# Altium schematic symbol library Embedded - Microcontrollers.SchLib: 219 symbols (part 4 of 15)
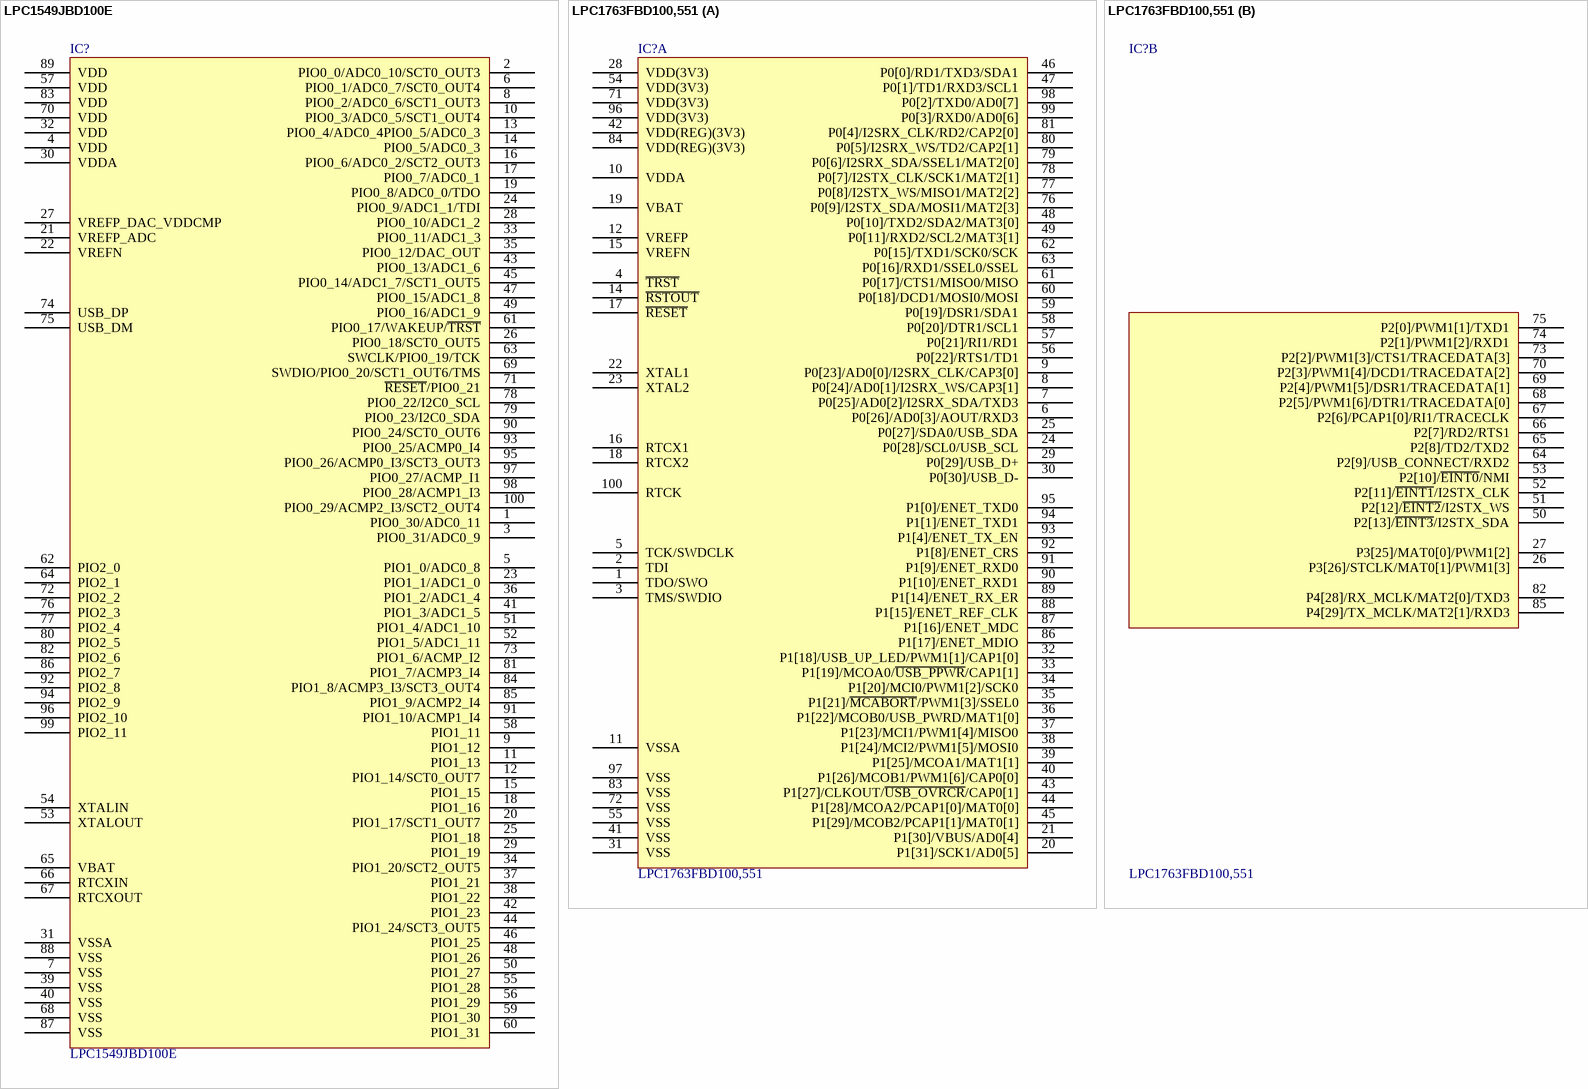
[diagram p104: symbols LPC1549JBD100E to LPC1763FBD100,551]

## LPC1549JBD100E
designator IC?
IC MCU 32BIT 256KB FLASH 100LQFP; Manufacturer: NXP USA Inc.; Connectivity: CANbus, I²C, SPI, UART/USART, USB; Core Processor: ARM® Cortex®-M3; Core Size: 32-Bit; Data Converters: A/D 24x12b; EEPROM Size: 4K x 8; Number of I/O: 76; Oscillator Type: Internal; Peripherals: Brown-out Detect/Reset, DMA, POR, PWM, WDT; Program Memory Size: 256KB (256K x 8); RAM Size: 36K x 8; Speed: 72MHz; Voltage - Supply (Vcc/Vdd): 2.4V ~ 3.6V; Part Number: LPC1549JBD100E; ComponentLink1Description: Datasheet; ComponentLink1URL: https://www.nxp.com/docs/en/data-sheet/LPC15XX.pdf; ComponentLink2Description: DigiKey Link; ComponentLink2URL: //digikey.com/product-detail/en/nxp-usa-inc/LPC1549JBD100E/568-11348-ND/4696350; Device Package: 100-LQFP; LastUpdated: 12/3/2019 10:04:50 PM; Lifecycle Status: 0; Minimum Order: 1; Mounting Type: Surface Mount; Operating Temperature: -40°C ~ 105°C (TA); Package / Case: 100-LQFP; Packaging: Tray; PartId: 49; Part Status: Active; Price: 8.12; Program Memory Type: FLASH; Series: LPC15xx; Supplier 1: DigiKey; Supplier Part Number 1: 568-11348-ND; Supplier Device Package: 100-LQFP (14x14)
footprint NXP LQFP-100 14X14MM
pins: 1 PIO0_30/ADC0_11, 2 PIO0_0/ADC0_10/SCT0_OUT3, 3 PIO0_31/ADC0_9, 4 VDD, 5 PIO1_0/ADC0_8, 6 PIO0_1/ADC0_7/SCT0_OUT4, 7 VSS, 8 PIO0_2/ADC0_6/SCT1_OUT3, 9 PIO1_12, 10 PIO0_3/ADC0_5/SCT1_OUT4, 11 PIO1_13, 12 PIO1_14/SCT0_OUT7, 13 PIO0_4/ADC0_4PIO0_5/ADC0_3, 14 PIO0_5/ADC0_3, 15 PIO1_15, 16 PIO0_6/ADC0_2/SCT2_OUT3, 17 PIO0_7/ADC0_1, 18 PIO1_16, 19 PIO0_8/ADC0_0/TDO, 20 PIO1_17/SCT1_OUT7, 21 VREFP_ADC, 22 VREFN, 23 PIO1_1/ADC1_0, 24 PIO0_9/ADC1_1/TDI, 25 PIO1_18, 26 PIO0_18/SCT0_OUT5, 27 VREFP_DAC_VDDCMP, 28 PIO0_10/ADC1_2, 29 PIO1_19, 30 VDDA, 31 VSSA, 32 VDD, 33 PIO0_11/ADC1_3, 34 PIO1_20/SCT2_OUT5, 35 PIO0_12/DAC_OUT, 36 PIO1_2/ADC1_4, 37 PIO1_21, 38 PIO1_22, 39 VSS, 40 VSS, 41 PIO1_3/ADC1_5, 42 PIO1_23, 43 PIO0_13/ADC1_6, 44 PIO1_24/SCT3_OUT5, 45 PIO0_14/ADC1_7/SCT1_OUT5, 46 PIO1_25, 47 PIO0_15/ADC1_8, 48 PIO1_26, 49 PIO0_16/ADC1_9, 50 PIO1_27, 51 PIO1_4/ADC1_10, 52 PIO1_5/ADC1_11, 53 XTALOUT, 54 XTALIN, 55 PIO1_28, 56 PIO1_29, 57 VDD, 58 PIO1_11, 59 PIO1_30, 60 PIO1_31, 61 PIO0_17/WAKEUP/~{TRST}, 62 PIO2_0, 63 SWCLK/PIO0_19/TCK, 64 PIO2_1, 65 VBAT, 66 RTCXIN, 67 RTCXOUT, 68 VSS, 69 SWDIO/PIO0_20/SCT1_OUT6/TMS, 70 VDD, 71 ~{RESET}/PIO0_21, 72 PIO2_2, 73 PIO1_6/ACMP_I2, 74 USB_DP, 75 USB_DM, 76 PIO2_3, 77 PIO2_4, 78 PIO0_22/I2C0_SCL, 79 PIO0_23/I2C0_SDA, 80 PIO2_5, 81 PIO1_7/ACMP3_I4, 82 PIO2_6, 83 VDD, 84 PIO1_8/ACMP3_I3/SCT3_OUT4, 85 PIO1_9/ACMP2_I4, 86 PIO2_7, 87 VSS, 88 VSS, 89 VDD, 90 PIO0_24/SCT0_OUT6, 91 PIO1_10/ACMP1_I4, 92 PIO2_8, 93 PIO0_25/ACMP0_I4, 94 PIO2_9, 95 PIO0_26/ACMP0_I3/SCT3_OUT3, 96 PIO2_10, 97 PIO0_27/ACMP_I1, 98 PIO0_28/ACMP1_I3, 99 PIO2_11, 100 PIO0_29/ACMP2_I3/SCT2_OUT4

## LPC1763FBD100,551
designator IC?
IC MCU 32BIT 256KB FLASH 100LQFP; Manufacturer: NXP USA Inc.; Connectivity: I²C, IrDA, Microwire, SPI, SSI, UART/USART; Core Processor: ARM® Cortex®-M3; Core Size: 32-Bit; Data Converters: A/D 8x12b; D/A 1x10b; Number of I/O: 70; Oscillator Type: Internal; Peripherals: Brown-out Detect/Reset, DMA, I²S, Motor Control PWM, POR, PWM, WDT; Program Memory Size: 256KB (256K x 8); RAM Size: 64K x 8; Speed: 100MHz; Voltage - Supply (Vcc/Vdd): 2.4V ~ 3.6V; Part Number: LPC1763FBD100,551; ComponentLink1Description: Datasheet; ComponentLink1URL: https://www.nxp.com/docs/en/data-sheet/LPC1769_68_67_66_65_64_63.pdf; ComponentLink2Description: DigiKey Link; ComponentLink2URL: //digikey.com/product-detail/en/nxp-usa-inc/LPC1763FBD100551/568-5658-ND/2406159; Device Package: 100-LQFP; LastUpdated: 12/3/2019 10:13:07 PM; Lifecycle Status: 0; Minimum Order: 1; Mounting Type: Surface Mount; Operating Temperature: -40°C ~ 85°C (TA); Package / Case: 100-LQFP; Packaging: Tray; PartId: 58; Part Status: Active; Price: 7.37; Program Memory Type: FLASH; Series: LPC17xx; Supplier 1: DigiKey; Supplier Part Number 1: 568-5658-ND; Supplier Device Package: 100-LQFP (14x14)
footprint NXP LQFP-100 14X14MM
part A pins: 1 TDO/SWO, 2 TDI, 3 TMS/SWDIO, 4 ~{TRST}, 5 TCK/SWDCLK, 6 P0[26]/AD0[3]/AOUT/RXD3, 7 P0[25]/AD0[2]/I2SRX_SDA/TXD3, 8 P0[24]/AD0[1]/I2SRX_WS/CAP3[1], 9 P0[23]/AD0[0]/I2SRX_CLK/CAP3[0], 10 VDDA, 11 VSSA, 12 VREFP, 14 ~{RSTOUT}, 15 VREFN, 16 RTCX1, 17 ~{RESET}, 18 RTCX2, 19 VBAT, 20 P1[31]/SCK1/AD0[5], 21 P1[30]/VBUS/AD0[4], 22 XTAL1, 23 XTAL2, 24 P0[28]/SCL0/USB_SCL, 25 P0[27]/SDA0/USB_SDA, 28 VDD(3V3), 29 P0[29]/USB_D+, 30 P0[30]/USB_D-, 31 VSS, 32 P1[18]/USB_UP_LED/PWM1[1]/CAP1[0], 33 P1[19]/MCOA0/~{USB_PPWR}/CAP1[1], 34 P1[20]/MCI0/PWM1[2]/SCK0, 35 P1[21]/~{MCABORT}/PWM1[3]/SSEL0, 36 P1[22]/MCOB0/USB_PWRD/MAT1[0], 37 P1[23]/MCI1/PWM1[4]/MISO0, 38 P1[24]/MCI2/PWM1[5]/MOSI0, 39 P1[25]/MCOA1/MAT1[1], 40 P1[26]/MCOB1/PWM1[6]/CAP0[0], 41 VSS, 42 VDD(REG)(3V3), 43 P1[27]/CLKOUT/~{USB_OVRCR}/CAP0[1], 44 P1[28]/MCOA2/PCAP1[0]/MAT0[0], 45 P1[29]/MCOB2/PCAP1[1]/MAT0[1], 46 P0[0]/RD1/TXD3/SDA1, 47 P0[1]/TD1/RXD3/SCL1, 48 P0[10]/TXD2/SDA2/MAT3[0], 49 P0[11]/RXD2/SCL2/MAT3[1], 54 VDD(3V3), 55 VSS, 56 P0[22]/RTS1/TD1, 57 P0[21]/RI1/RD1, 58 P0[20]/DTR1/SCL1, 59 P0[19]/DSR1/SDA1, 60 P0[18]/DCD1/MOSI0/MOSI, 61 P0[17]/CTS1/MISO0/MISO, 62 P0[15]/TXD1/SCK0/SCK, 63 P0[16]/RXD1/SSEL0/SSEL, 71 VDD(3V3), 72 VSS, 76 P0[9]/I2STX_SDA/MOSI1/MAT2[3], 77 P0[8]/I2STX_WS/MISO1/MAT2[2], 78 P0[7]/I2STX_CLK/SCK1/MAT2[1], 79 P0[6]/I2SRX_SDA/SSEL1/MAT2[0], 80 P0[5]/I2SRX_WS/TD2/CAP2[1], 81 P0[4]/I2SRX_CLK/RD2/CAP2[0], 83 VSS, 84 VDD(REG)(3V3), 86 P1[17]/ENET_MDIO, 87 P1[16]/ENET_MDC, 88 P1[15]/ENET_REF_CLK, 89 P1[14]/ENET_RX_ER, 90 P1[10]/ENET_RXD1, 91 P1[9]/ENET_RXD0, 92 P1[8]/ENET_CRS, 93 P1[4]/ENET_TX_EN, 94 P1[1]/ENET_TXD1, 95 P1[0]/ENET_TXD0, 96 VDD(3V3), 97 VSS, 98 P0[2]/TXD0/AD0[7], 99 P0[3]/RXD0/AD0[6], 100 RTCK
part B pins: 26 P3[26]/STCLK/MAT0[1]/PWM1[3], 27 P3[25]/MAT0[0]/PWM1[2], 50 P2[13]/~{EINT3}/I2STX_SDA, 51 P2[12]/~{EINT2}/I2STX_WS, 52 P2[11]/~{EINT1}/I2STX_CLK, 53 P2[10]/~{EINT0}/NMI, 64 P2[9]/USB_CONNECT/RXD2, 65 P2[8]/TD2/TXD2, 66 P2[7]/RD2/RTS1, 67 P2[6]/PCAP1[0]/RI1/TRACECLK, 68 P2[5]/PWM1[6]/DTR1/TRACEDATA[0], 69 P2[4]/PWM1[5]/DSR1/TRACEDATA[1], 70 P2[3]/PWM1[4]/DCD1/TRACEDATA[2], 73 P2[2]/PWM1[3]/CTS1/TRACEDATA[3], 74 P2[1]/PWM1[2]/RXD1, 75 P2[0]/PWM1[1]/TXD1, 82 P4[28]/RX_MCLK/MAT2[0]/TXD3, 85 P4[29]/TX_MCLK/MAT2[1]/RXD3

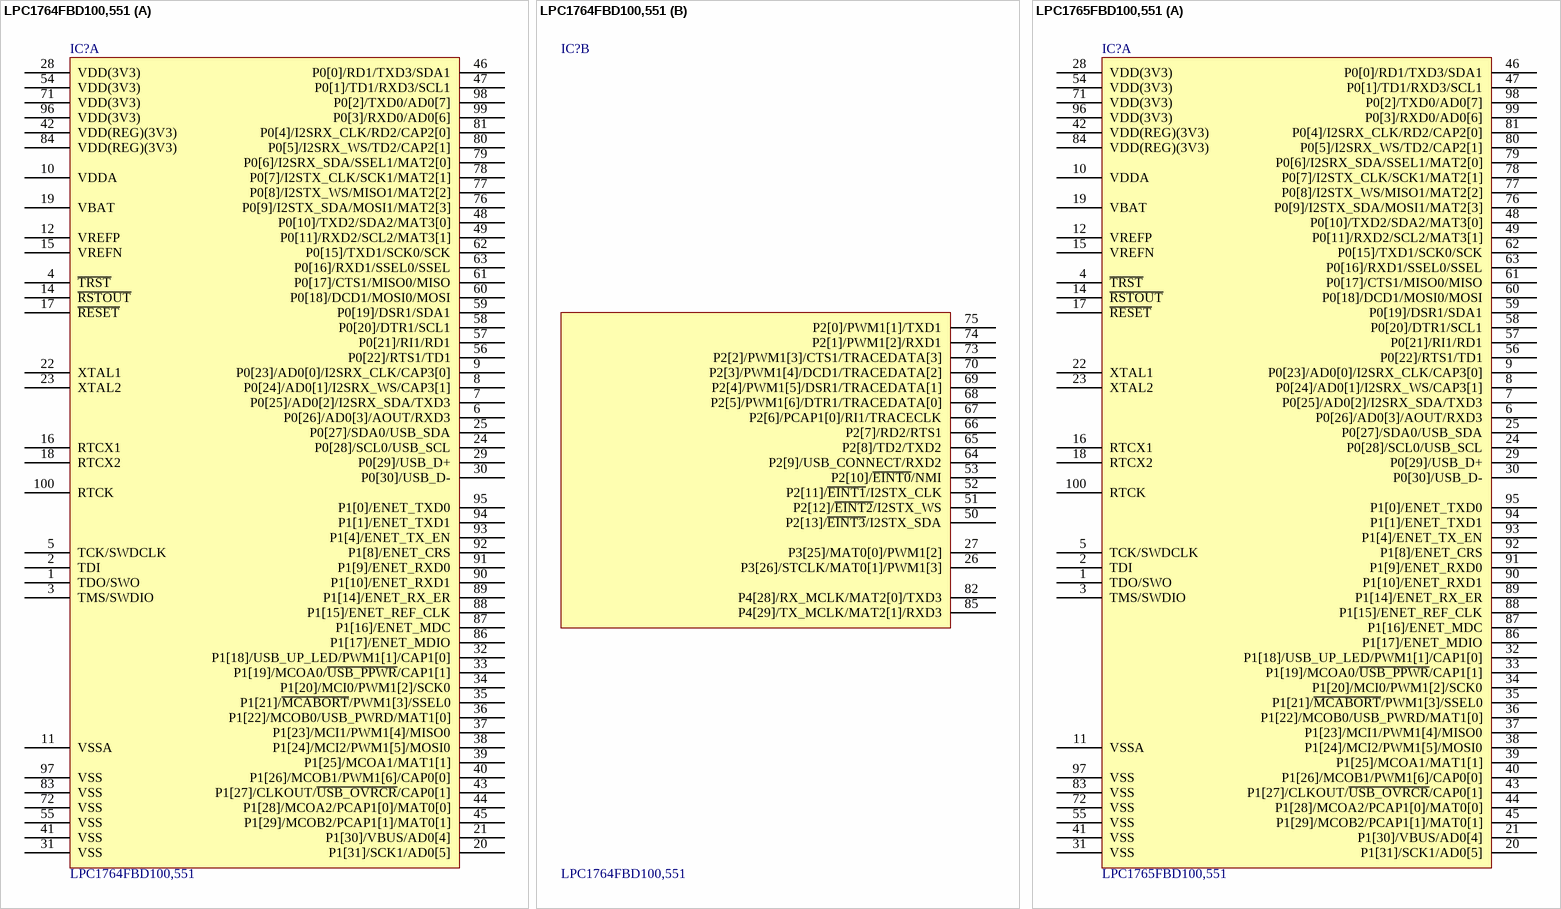
[diagram p17: symbols LPC1764FBD100,551 to LPC1765FBD100,551]

## LPC1764FBD100,551
designator IC?
IC MCU 32BIT 128KB FLASH 100LQFP; Manufacturer: NXP USA Inc.; Connectivity: CANbus, Ethernet, I²C, IrDA, Microwire, SPI, SSI, UART/USART, USB; Core Processor: ARM® Cortex®-M3; Core Size: 32-Bit; Data Converters: A/D 8x12b; Number of I/O: 70; Oscillator Type: Internal; Peripherals: Brown-out Detect/Reset, DMA, Motor Control PWM, POR, PWM, WDT; Program Memory Size: 128KB (128K x 8); RAM Size: 32K x 8; Speed: 100MHz; Voltage - Supply (Vcc/Vdd): 2.4V ~ 3.6V; Part Number: LPC1764FBD100,551; ComponentLink1Description: Datasheet; ComponentLink1URL: https://www.nxp.com/docs/en/data-sheet/LPC1769_68_67_66_65_64_63.pdf; ComponentLink2Description: DigiKey Link; ComponentLink2URL: //digikey.com/product-detail/en/nxp-usa-inc/LPC1764FBD100551/568-4793-ND/2089965; Device Package: 100-LQFP; LastUpdated: 12/3/2019 10:07:37 PM; Lifecycle Status: 0; Minimum Order: 1; Mounting Type: Surface Mount; Operating Temperature: -40°C ~ 85°C (TA); Package / Case: 100-LQFP; Packaging: Tray; PartId: 50; Part Status: Active; Price: 8.12; Program Memory Type: FLASH; Series: LPC17xx; Supplier 1: DigiKey; Supplier Part Number 1: 568-4793-ND; Supplier Device Package: 100-LQFP (14x14)
footprint NXP LQFP-100 14X14MM
part A pins: 1 TDO/SWO, 2 TDI, 3 TMS/SWDIO, 4 ~{TRST}, 5 TCK/SWDCLK, 6 P0[26]/AD0[3]/AOUT/RXD3, 7 P0[25]/AD0[2]/I2SRX_SDA/TXD3, 8 P0[24]/AD0[1]/I2SRX_WS/CAP3[1], 9 P0[23]/AD0[0]/I2SRX_CLK/CAP3[0], 10 VDDA, 11 VSSA, 12 VREFP, 14 ~{RSTOUT}, 15 VREFN, 16 RTCX1, 17 ~{RESET}, 18 RTCX2, 19 VBAT, 20 P1[31]/SCK1/AD0[5], 21 P1[30]/VBUS/AD0[4], 22 XTAL1, 23 XTAL2, 24 P0[28]/SCL0/USB_SCL, 25 P0[27]/SDA0/USB_SDA, 28 VDD(3V3), 29 P0[29]/USB_D+, 30 P0[30]/USB_D-, 31 VSS, 32 P1[18]/USB_UP_LED/PWM1[1]/CAP1[0], 33 P1[19]/MCOA0/~{USB_PPWR}/CAP1[1], 34 P1[20]/MCI0/PWM1[2]/SCK0, 35 P1[21]/~{MCABORT}/PWM1[3]/SSEL0, 36 P1[22]/MCOB0/USB_PWRD/MAT1[0], 37 P1[23]/MCI1/PWM1[4]/MISO0, 38 P1[24]/MCI2/PWM1[5]/MOSI0, 39 P1[25]/MCOA1/MAT1[1], 40 P1[26]/MCOB1/PWM1[6]/CAP0[0], 41 VSS, 42 VDD(REG)(3V3), 43 P1[27]/CLKOUT/~{USB_OVRCR}/CAP0[1], 44 P1[28]/MCOA2/PCAP1[0]/MAT0[0], 45 P1[29]/MCOB2/PCAP1[1]/MAT0[1], 46 P0[0]/RD1/TXD3/SDA1, 47 P0[1]/TD1/RXD3/SCL1, 48 P0[10]/TXD2/SDA2/MAT3[0], 49 P0[11]/RXD2/SCL2/MAT3[1], 54 VDD(3V3), 55 VSS, 56 P0[22]/RTS1/TD1, 57 P0[21]/RI1/RD1, 58 P0[20]/DTR1/SCL1, 59 P0[19]/DSR1/SDA1, 60 P0[18]/DCD1/MOSI0/MOSI, 61 P0[17]/CTS1/MISO0/MISO, 62 P0[15]/TXD1/SCK0/SCK, 63 P0[16]/RXD1/SSEL0/SSEL, 71 VDD(3V3), 72 VSS, 76 P0[9]/I2STX_SDA/MOSI1/MAT2[3], 77 P0[8]/I2STX_WS/MISO1/MAT2[2], 78 P0[7]/I2STX_CLK/SCK1/MAT2[1], 79 P0[6]/I2SRX_SDA/SSEL1/MAT2[0], 80 P0[5]/I2SRX_WS/TD2/CAP2[1], 81 P0[4]/I2SRX_CLK/RD2/CAP2[0], 83 VSS, 84 VDD(REG)(3V3), 86 P1[17]/ENET_MDIO, 87 P1[16]/ENET_MDC, 88 P1[15]/ENET_REF_CLK, 89 P1[14]/ENET_RX_ER, 90 P1[10]/ENET_RXD1, 91 P1[9]/ENET_RXD0, 92 P1[8]/ENET_CRS, 93 P1[4]/ENET_TX_EN, 94 P1[1]/ENET_TXD1, 95 P1[0]/ENET_TXD0, 96 VDD(3V3), 97 VSS, 98 P0[2]/TXD0/AD0[7], 99 P0[3]/RXD0/AD0[6], 100 RTCK
part B pins: 26 P3[26]/STCLK/MAT0[1]/PWM1[3], 27 P3[25]/MAT0[0]/PWM1[2], 50 P2[13]/~{EINT3}/I2STX_SDA, 51 P2[12]/~{EINT2}/I2STX_WS, 52 P2[11]/~{EINT1}/I2STX_CLK, 53 P2[10]/~{EINT0}/NMI, 64 P2[9]/USB_CONNECT/RXD2, 65 P2[8]/TD2/TXD2, 66 P2[7]/RD2/RTS1, 67 P2[6]/PCAP1[0]/RI1/TRACECLK, 68 P2[5]/PWM1[6]/DTR1/TRACEDATA[0], 69 P2[4]/PWM1[5]/DSR1/TRACEDATA[1], 70 P2[3]/PWM1[4]/DCD1/TRACEDATA[2], 73 P2[2]/PWM1[3]/CTS1/TRACEDATA[3], 74 P2[1]/PWM1[2]/RXD1, 75 P2[0]/PWM1[1]/TXD1, 82 P4[28]/RX_MCLK/MAT2[0]/TXD3, 85 P4[29]/TX_MCLK/MAT2[1]/RXD3

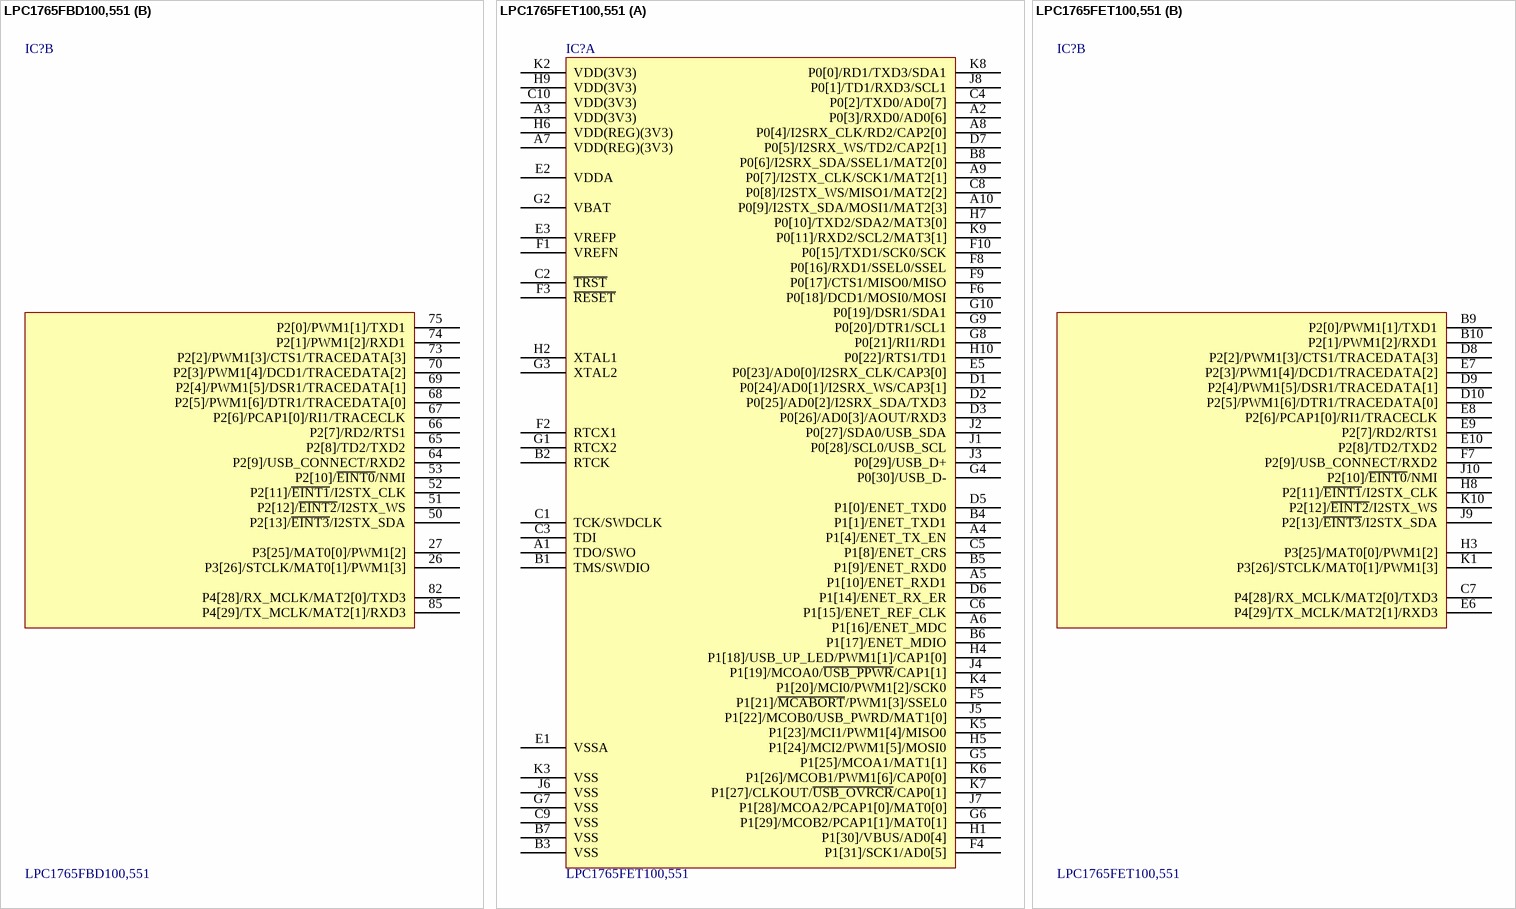
[diagram p18: symbols LPC1765FBD100,551 to LPC1765FET100,551]

## LPC1765FBD100,551
designator IC?
IC MCU 32BIT 256KB FLASH 100LQFP; Manufacturer: NXP USA Inc.; Connectivity: CANbus, I²C, IrDA, Microwire, SPI, SSI, SSP, UART/USART, USB OTG; Core Processor: ARM® Cortex®-M3; Core Size: 32-Bit; Data Converters: A/D 8x12b; D/A 1x10b; Number of I/O: 70; Oscillator Type: Internal; Peripherals: Brown-out Detect/Reset, DMA, I²S, Motor Control PWM, POR, PWM, WDT; Program Memory Size: 256KB (256K x 8); RAM Size: 64K x 8; Speed: 100MHz; Voltage - Supply (Vcc/Vdd): 2.4V ~ 3.6V; Part Number: LPC1765FBD100,551; ComponentLink1Description: Datasheet; ComponentLink1URL: https://www.nxp.com/docs/en/data-sheet/LPC1769_68_67_66_65_64_63.pdf; ComponentLink2Description: DigiKey Link; ComponentLink2URL: //digikey.com/product-detail/en/nxp-usa-inc/LPC1765FBD100551/568-4794-ND/2089966; Device Package: 100-LQFP; LastUpdated: 12/3/2019 10:09:27 PM; Lifecycle Status: 0; Minimum Order: 1; Mounting Type: Surface Mount; Operating Temperature: -40°C ~ 85°C (TA); Package / Case: 100-LQFP; Packaging: Tray; PartId: 52; Part Status: Active; Price: 9.37; Program Memory Type: FLASH; Series: LPC17xx; Supplier 1: DigiKey; Supplier Part Number 1: 568-4794-ND; Supplier Device Package: 100-LQFP (14x14)
footprint NXP LQFP-100 14X14MM
part A pins: 1 TDO/SWO, 2 TDI, 3 TMS/SWDIO, 4 ~{TRST}, 5 TCK/SWDCLK, 6 P0[26]/AD0[3]/AOUT/RXD3, 7 P0[25]/AD0[2]/I2SRX_SDA/TXD3, 8 P0[24]/AD0[1]/I2SRX_WS/CAP3[1], 9 P0[23]/AD0[0]/I2SRX_CLK/CAP3[0], 10 VDDA, 11 VSSA, 12 VREFP, 14 ~{RSTOUT}, 15 VREFN, 16 RTCX1, 17 ~{RESET}, 18 RTCX2, 19 VBAT, 20 P1[31]/SCK1/AD0[5], 21 P1[30]/VBUS/AD0[4], 22 XTAL1, 23 XTAL2, 24 P0[28]/SCL0/USB_SCL, 25 P0[27]/SDA0/USB_SDA, 28 VDD(3V3), 29 P0[29]/USB_D+, 30 P0[30]/USB_D-, 31 VSS, 32 P1[18]/USB_UP_LED/PWM1[1]/CAP1[0], 33 P1[19]/MCOA0/~{USB_PPWR}/CAP1[1], 34 P1[20]/MCI0/PWM1[2]/SCK0, 35 P1[21]/~{MCABORT}/PWM1[3]/SSEL0, 36 P1[22]/MCOB0/USB_PWRD/MAT1[0], 37 P1[23]/MCI1/PWM1[4]/MISO0, 38 P1[24]/MCI2/PWM1[5]/MOSI0, 39 P1[25]/MCOA1/MAT1[1], 40 P1[26]/MCOB1/PWM1[6]/CAP0[0], 41 VSS, 42 VDD(REG)(3V3), 43 P1[27]/CLKOUT/~{USB_OVRCR}/CAP0[1], 44 P1[28]/MCOA2/PCAP1[0]/MAT0[0], 45 P1[29]/MCOB2/PCAP1[1]/MAT0[1], 46 P0[0]/RD1/TXD3/SDA1, 47 P0[1]/TD1/RXD3/SCL1, 48 P0[10]/TXD2/SDA2/MAT3[0], 49 P0[11]/RXD2/SCL2/MAT3[1], 54 VDD(3V3), 55 VSS, 56 P0[22]/RTS1/TD1, 57 P0[21]/RI1/RD1, 58 P0[20]/DTR1/SCL1, 59 P0[19]/DSR1/SDA1, 60 P0[18]/DCD1/MOSI0/MOSI, 61 P0[17]/CTS1/MISO0/MISO, 62 P0[15]/TXD1/SCK0/SCK, 63 P0[16]/RXD1/SSEL0/SSEL, 71 VDD(3V3), 72 VSS, 76 P0[9]/I2STX_SDA/MOSI1/MAT2[3], 77 P0[8]/I2STX_WS/MISO1/MAT2[2], 78 P0[7]/I2STX_CLK/SCK1/MAT2[1], 79 P0[6]/I2SRX_SDA/SSEL1/MAT2[0], 80 P0[5]/I2SRX_WS/TD2/CAP2[1], 81 P0[4]/I2SRX_CLK/RD2/CAP2[0], 83 VSS, 84 VDD(REG)(3V3), 86 P1[17]/ENET_MDIO, 87 P1[16]/ENET_MDC, 88 P1[15]/ENET_REF_CLK, 89 P1[14]/ENET_RX_ER, 90 P1[10]/ENET_RXD1, 91 P1[9]/ENET_RXD0, 92 P1[8]/ENET_CRS, 93 P1[4]/ENET_TX_EN, 94 P1[1]/ENET_TXD1, 95 P1[0]/ENET_TXD0, 96 VDD(3V3), 97 VSS, 98 P0[2]/TXD0/AD0[7], 99 P0[3]/RXD0/AD0[6], 100 RTCK
part B pins: 26 P3[26]/STCLK/MAT0[1]/PWM1[3], 27 P3[25]/MAT0[0]/PWM1[2], 50 P2[13]/~{EINT3}/I2STX_SDA, 51 P2[12]/~{EINT2}/I2STX_WS, 52 P2[11]/~{EINT1}/I2STX_CLK, 53 P2[10]/~{EINT0}/NMI, 64 P2[9]/USB_CONNECT/RXD2, 65 P2[8]/TD2/TXD2, 66 P2[7]/RD2/RTS1, 67 P2[6]/PCAP1[0]/RI1/TRACECLK, 68 P2[5]/PWM1[6]/DTR1/TRACEDATA[0], 69 P2[4]/PWM1[5]/DSR1/TRACEDATA[1], 70 P2[3]/PWM1[4]/DCD1/TRACEDATA[2], 73 P2[2]/PWM1[3]/CTS1/TRACEDATA[3], 74 P2[1]/PWM1[2]/RXD1, 75 P2[0]/PWM1[1]/TXD1, 82 P4[28]/RX_MCLK/MAT2[0]/TXD3, 85 P4[29]/TX_MCLK/MAT2[1]/RXD3

## LPC1765FET100,551
designator IC?
IC MCU 32BIT 256KB FLASH 100BGA; Manufacturer: NXP USA Inc.; Connectivity: CANbus, I²C, IrDA, Microwire, SPI, SSI, SSP, UART/USART, USB OTG; Core Processor: ARM® Cortex®-M3; Core Size: 32-Bit; Data Converters: A/D 8x12b; D/A 1x10b; Number of I/O: 70; Oscillator Type: Internal; Peripherals: Brown-out Detect/Reset, DMA, I²S, Motor Control PWM, POR, PWM, WDT; Program Memory Size: 256KB (256K x 8); RAM Size: 64K x 8; Speed: 100MHz; Voltage - Supply (Vcc/Vdd): 2.4V ~ 3.6V; Part Number: LPC1765FET100,551; ComponentLink1Description: Datasheet; ComponentLink1URL: https://www.nxp.com/docs/en/data-sheet/LPC1769_68_67_66_65_64_63.pdf; ComponentLink2Description: DigiKey Link; ComponentLink2URL: //digikey.com/product-detail/en/nxp-usa-inc/LPC1765FET100551/568-7565-ND/2677559; Device Package: 100-TFBGA; LastUpdated: 12/3/2019 10:10:16 PM; Lifecycle Status: 0; Minimum Order: 1; Mounting Type: Surface Mount; Operating Temperature: -40°C ~ 85°C (TA); Package / Case: 100-TFBGA; Packaging: Tray; PartId: 53; Part Status: Active; Price: 9.37; Program Memory Type: FLASH; Series: LPC17xx; Supplier 1: DigiKey; Supplier Part Number 1: 568-7565-ND; Supplier Device Package: 100-TFBGA (9x9)
footprint NXP TFBGA-100 9X9MM
part A pins: A1 TDO/SWO, A2 P0[3]/RXD0/AD0[6], A3 VDD(3V3), A4 P1[4]/ENET_TX_EN, A5 P1[10]/ENET_RXD1, A6 P1[16]/ENET_MDC, A7 VDD(REG)(3V3), A8 P0[4]/I2SRX_CLK/RD2/CAP2[0], A9 P0[7]/I2STX_CLK/SCK1/MAT2[1], A10 P0[9]/I2STX_SDA/MOSI1/MAT2[3], B1 TMS/SWDIO, B2 RTCK, B3 VSS, B4 P1[1]/ENET_TXD1, B5 P1[9]/ENET_RXD0, B6 P1[17]/ENET_MDIO, B7 VSS, B8 P0[6]/I2SRX_SDA/SSEL1/MAT2[0], C1 TCK/SWDCLK, C2 ~{TRST}, C3 TDI, C4 P0[2]/TXD0/AD0[7], C5 P1[8]/ENET_CRS, C6 P1[15]/ENET_REF_CLK, C8 P0[8]/I2STX_WS/MISO1/MAT2[2], C9 VSS, C10 VDD(3V3), D1 P0[24]/AD0[1]/I2SRX_WS/CAP3[1], D2 P0[25]/AD0[2]/I2SRX_SDA/TXD3, D3 P0[26]/AD0[3]/AOUT/RXD3, D5 P1[0]/ENET_TXD0, D6 P1[14]/ENET_RX_ER, D7 P0[5]/I2SRX_WS/TD2/CAP2[1], E1 VSSA, E2 VDDA, E3 VREFP, E5 P0[23]/AD0[0]/I2SRX_CLK/CAP3[0], F1 VREFN, F2 RTCX1, F3 ~{RESET}, F4 P1[31]/SCK1/AD0[5], F5 P1[21]/~{MCABORT}/PWM1[3]/SSEL0, F6 P0[18]/DCD1/MOSI0/MOSI, F8 P0[16]/RXD1/SSEL0/SSEL, F9 P0[17]/CTS1/MISO0/MISO, F10 P0[15]/TXD1/SCK0/SCK, G1 RTCX2, G2 VBAT, G3 XTAL2, G4 P0[30]/USB_D-, G5 P1[25]/MCOA1/MAT1[1], G6 P1[29]/MCOB2/PCAP1[1]/MAT0[1], G7 VSS, G8 P0[21]/RI1/RD1, G9 P0[20]/DTR1/SCL1, G10 P0[19]/DSR1/SDA1, H1 P1[30]/VBUS/AD0[4], H2 XTAL1, H4 P1[18]/USB_UP_LED/PWM1[1]/CAP1[0], H5 P1[24]/MCI2/PWM1[5]/MOSI0, H6 VDD(REG)(3V3), H7 P0[10]/TXD2/SDA2/MAT3[0], H9 VDD(3V3), H10 P0[22]/RTS1/TD1, J1 P0[28]/SCL0/USB_SCL, J2 P0[27]/SDA0/USB_SDA, J3 P0[29]/USB_D+, J4 P1[19]/MCOA0/~{USB_PPWR}/CAP1[1], J5 P1[22]/MCOB0/USB_PWRD/MAT1[0], J6 VSS, J7 P1[28]/MCOA2/PCAP1[0]/MAT0[0], J8 P0[1]/TD1/RXD3/SCL1, K2 VDD(3V3), K3 VSS, K4 P1[20]/MCI0/PWM1[2]/SCK0, K5 P1[23]/MCI1/PWM1[4]/MISO0, K6 P1[26]/MCOB1/PWM1[6]/CAP0[0], K7 P1[27]/CLKOUT/~{USB_OVRCR}/CAP0[1], K8 P0[0]/RD1/TXD3/SDA1, K9 P0[11]/RXD2/SCL2/MAT3[1]
part B pins: B9 P2[0]/PWM1[1]/TXD1, B10 P2[1]/PWM1[2]/RXD1, C7 P4[28]/RX_MCLK/MAT2[0]/TXD3, D8 P2[2]/PWM1[3]/CTS1/TRACEDATA[3], D9 P2[4]/PWM1[5]/DSR1/TRACEDATA[1], D10 P2[5]/PWM1[6]/DTR1/TRACEDATA[0], E6 P4[29]/TX_MCLK/MAT2[1]/RXD3, E7 P2[3]/PWM1[4]/DCD1/TRACEDATA[2], E8 P2[6]/PCAP1[0]/RI1/TRACECLK, E9 P2[7]/RD2/RTS1, E10 P2[8]/TD2/TXD2, F7 P2[9]/USB_CONNECT/RXD2, H3 P3[25]/MAT0[0]/PWM1[2], H8 P2[11]/~{EINT1}/I2STX_CLK, J9 P2[13]/~{EINT3}/I2STX_SDA, J10 P2[10]/~{EINT0}/NMI, K1 P3[26]/STCLK/MAT0[1]/PWM1[3], K10 P2[12]/~{EINT2}/I2STX_WS

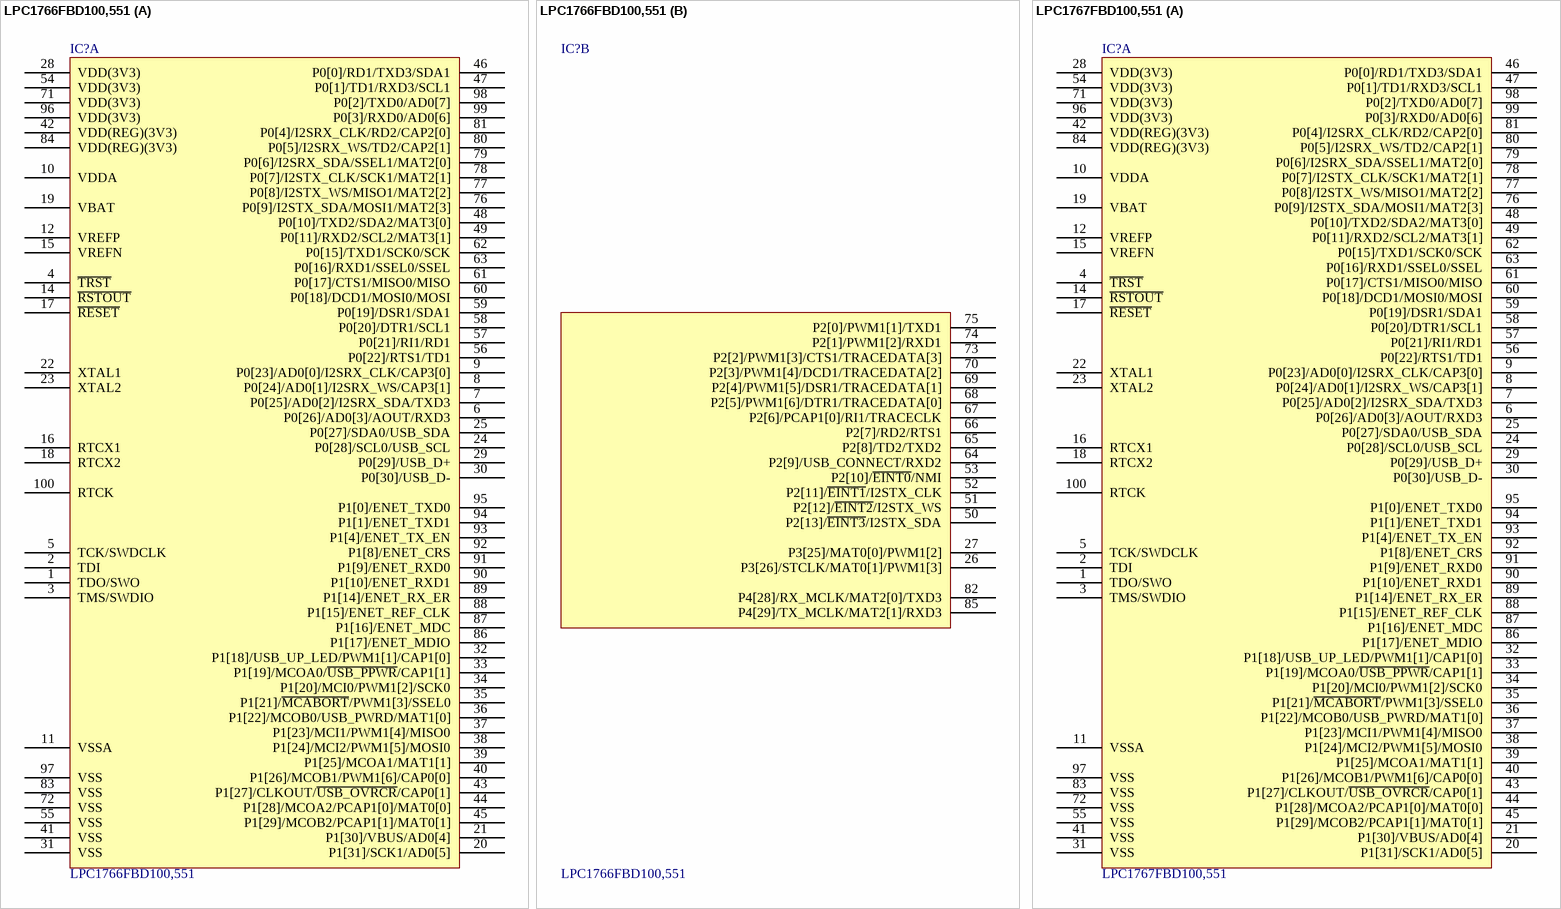
[diagram p19: symbols LPC1766FBD100,551 to LPC1767FBD100,551]

## LPC1766FBD100,551
designator IC?
IC MCU 32BIT 256KB FLASH 100LQFP; Manufacturer: NXP USA Inc.; Connectivity: CANbus, Ethernet, I²C, IrDA, Microwire, SPI, SSI, UART/USART, USB OTG; Core Processor: ARM® Cortex®-M3; Core Size: 32-Bit; Data Converters: A/D 8x12b; D/A 1x10b; Number of I/O: 70; Oscillator Type: Internal; Peripherals: Brown-out Detect/Reset, DMA, I²S, Motor Control PWM, POR, PWM, WDT; Program Memory Size: 256KB (256K x 8); RAM Size: 64K x 8; Speed: 100MHz; Voltage - Supply (Vcc/Vdd): 2.4V ~ 3.6V; Part Number: LPC1766FBD100,551; ComponentLink1Description: Datasheet; ComponentLink1URL: https://www.nxp.com/docs/en/data-sheet/LPC1769_68_67_66_65_64_63.pdf; ComponentLink2Description: DigiKey Link; ComponentLink2URL: //digikey.com/product-detail/en/nxp-usa-inc/LPC1766FBD100551/568-4795-ND/2089967; Device Package: 100-LQFP; LastUpdated: 12/3/2019 10:10:56 PM; Lifecycle Status: 0; Minimum Order: 1; Mounting Type: Surface Mount; Operating Temperature: -40°C ~ 85°C (TA); Package / Case: 100-LQFP; Packaging: Tray; PartId: 54; Part Status: Active; Price: 10.00; Program Memory Type: FLASH; Series: LPC17xx; Supplier 1: DigiKey; Supplier Part Number 1: 568-4795-ND; Supplier Device Package: 100-LQFP (14x14)
footprint NXP LQFP-100 14X14MM
part A pins: 1 TDO/SWO, 2 TDI, 3 TMS/SWDIO, 4 ~{TRST}, 5 TCK/SWDCLK, 6 P0[26]/AD0[3]/AOUT/RXD3, 7 P0[25]/AD0[2]/I2SRX_SDA/TXD3, 8 P0[24]/AD0[1]/I2SRX_WS/CAP3[1], 9 P0[23]/AD0[0]/I2SRX_CLK/CAP3[0], 10 VDDA, 11 VSSA, 12 VREFP, 14 ~{RSTOUT}, 15 VREFN, 16 RTCX1, 17 ~{RESET}, 18 RTCX2, 19 VBAT, 20 P1[31]/SCK1/AD0[5], 21 P1[30]/VBUS/AD0[4], 22 XTAL1, 23 XTAL2, 24 P0[28]/SCL0/USB_SCL, 25 P0[27]/SDA0/USB_SDA, 28 VDD(3V3), 29 P0[29]/USB_D+, 30 P0[30]/USB_D-, 31 VSS, 32 P1[18]/USB_UP_LED/PWM1[1]/CAP1[0], 33 P1[19]/MCOA0/~{USB_PPWR}/CAP1[1], 34 P1[20]/MCI0/PWM1[2]/SCK0, 35 P1[21]/~{MCABORT}/PWM1[3]/SSEL0, 36 P1[22]/MCOB0/USB_PWRD/MAT1[0], 37 P1[23]/MCI1/PWM1[4]/MISO0, 38 P1[24]/MCI2/PWM1[5]/MOSI0, 39 P1[25]/MCOA1/MAT1[1], 40 P1[26]/MCOB1/PWM1[6]/CAP0[0], 41 VSS, 42 VDD(REG)(3V3), 43 P1[27]/CLKOUT/~{USB_OVRCR}/CAP0[1], 44 P1[28]/MCOA2/PCAP1[0]/MAT0[0], 45 P1[29]/MCOB2/PCAP1[1]/MAT0[1], 46 P0[0]/RD1/TXD3/SDA1, 47 P0[1]/TD1/RXD3/SCL1, 48 P0[10]/TXD2/SDA2/MAT3[0], 49 P0[11]/RXD2/SCL2/MAT3[1], 54 VDD(3V3), 55 VSS, 56 P0[22]/RTS1/TD1, 57 P0[21]/RI1/RD1, 58 P0[20]/DTR1/SCL1, 59 P0[19]/DSR1/SDA1, 60 P0[18]/DCD1/MOSI0/MOSI, 61 P0[17]/CTS1/MISO0/MISO, 62 P0[15]/TXD1/SCK0/SCK, 63 P0[16]/RXD1/SSEL0/SSEL, 71 VDD(3V3), 72 VSS, 76 P0[9]/I2STX_SDA/MOSI1/MAT2[3], 77 P0[8]/I2STX_WS/MISO1/MAT2[2], 78 P0[7]/I2STX_CLK/SCK1/MAT2[1], 79 P0[6]/I2SRX_SDA/SSEL1/MAT2[0], 80 P0[5]/I2SRX_WS/TD2/CAP2[1], 81 P0[4]/I2SRX_CLK/RD2/CAP2[0], 83 VSS, 84 VDD(REG)(3V3), 86 P1[17]/ENET_MDIO, 87 P1[16]/ENET_MDC, 88 P1[15]/ENET_REF_CLK, 89 P1[14]/ENET_RX_ER, 90 P1[10]/ENET_RXD1, 91 P1[9]/ENET_RXD0, 92 P1[8]/ENET_CRS, 93 P1[4]/ENET_TX_EN, 94 P1[1]/ENET_TXD1, 95 P1[0]/ENET_TXD0, 96 VDD(3V3), 97 VSS, 98 P0[2]/TXD0/AD0[7], 99 P0[3]/RXD0/AD0[6], 100 RTCK
part B pins: 26 P3[26]/STCLK/MAT0[1]/PWM1[3], 27 P3[25]/MAT0[0]/PWM1[2], 50 P2[13]/~{EINT3}/I2STX_SDA, 51 P2[12]/~{EINT2}/I2STX_WS, 52 P2[11]/~{EINT1}/I2STX_CLK, 53 P2[10]/~{EINT0}/NMI, 64 P2[9]/USB_CONNECT/RXD2, 65 P2[8]/TD2/TXD2, 66 P2[7]/RD2/RTS1, 67 P2[6]/PCAP1[0]/RI1/TRACECLK, 68 P2[5]/PWM1[6]/DTR1/TRACEDATA[0], 69 P2[4]/PWM1[5]/DSR1/TRACEDATA[1], 70 P2[3]/PWM1[4]/DCD1/TRACEDATA[2], 73 P2[2]/PWM1[3]/CTS1/TRACEDATA[3], 74 P2[1]/PWM1[2]/RXD1, 75 P2[0]/PWM1[1]/TXD1, 82 P4[28]/RX_MCLK/MAT2[0]/TXD3, 85 P4[29]/TX_MCLK/MAT2[1]/RXD3

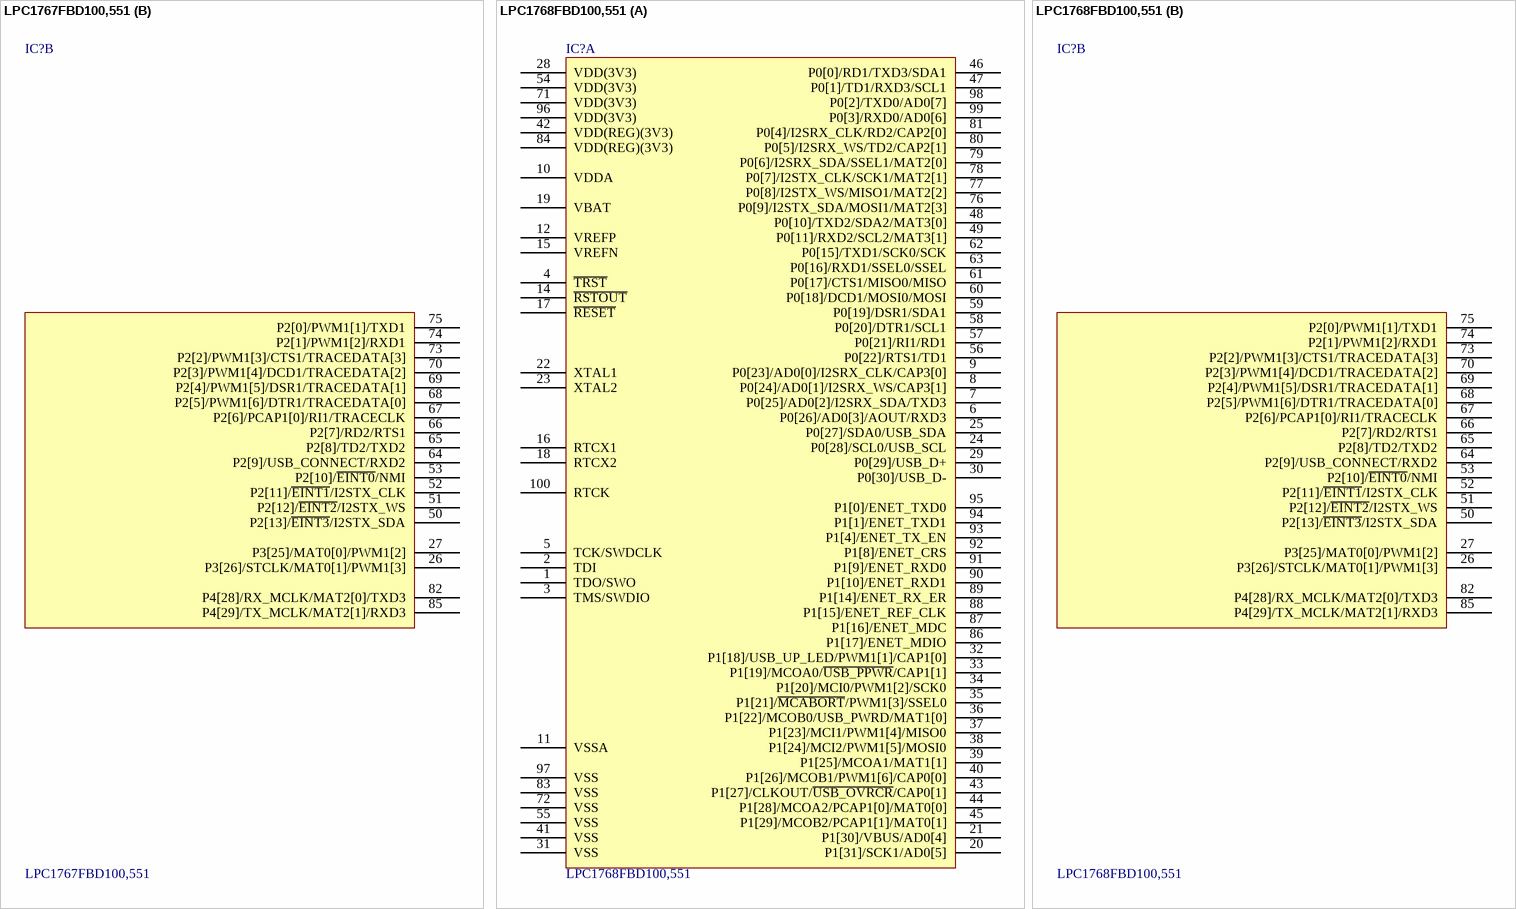
[diagram p20: symbols LPC1767FBD100,551 to LPC1768FBD100,551]

## LPC1767FBD100,551
designator IC?
IC MCU 32BIT 512KB FLASH 100LQFP; Manufacturer: NXP USA Inc.; Connectivity: Ethernet, I²C, IrDA, Microwire, SPI, SSI, UART/USART; Core Processor: ARM® Cortex®-M3; Core Size: 32-Bit; Data Converters: A/D 8x12b; D/A 1x10b; Number of I/O: 70; Oscillator Type: Internal; Peripherals: Brown-out Detect/Reset, DMA, I²S, Motor Control PWM, POR, PWM, WDT; Program Memory Size: 512KB (512K x 8); RAM Size: 64K x 8; Speed: 100MHz; Voltage - Supply (Vcc/Vdd): 2.4V ~ 3.6V; Part Number: LPC1767FBD100,551; ComponentLink1Description: Datasheet; ComponentLink1URL: https://www.nxp.com/docs/en/data-sheet/LPC1769_68_67_66_65_64_63.pdf; ComponentLink2Description: DigiKey Link; ComponentLink2URL: //digikey.com/product-detail/en/nxp-usa-inc/LPC1767FBD100551/568-4967-ND/2206363; Device Package: 100-LQFP; LastUpdated: 12/3/2019 10:08:48 PM; Lifecycle Status: 0; Minimum Order: 1; Mounting Type: Surface Mount; Operating Temperature: -40°C ~ 85°C (TA); Package / Case: 100-LQFP; Packaging: Tray; PartId: 51; Part Status: Active; Price: 10.62; Program Memory Type: FLASH; Series: LPC17xx; Supplier 1: DigiKey; Supplier Part Number 1: 568-4967-ND; Supplier Device Package: 100-LQFP (14x14)
footprint NXP LQFP-100 14X14MM
part A pins: 1 TDO/SWO, 2 TDI, 3 TMS/SWDIO, 4 ~{TRST}, 5 TCK/SWDCLK, 6 P0[26]/AD0[3]/AOUT/RXD3, 7 P0[25]/AD0[2]/I2SRX_SDA/TXD3, 8 P0[24]/AD0[1]/I2SRX_WS/CAP3[1], 9 P0[23]/AD0[0]/I2SRX_CLK/CAP3[0], 10 VDDA, 11 VSSA, 12 VREFP, 14 ~{RSTOUT}, 15 VREFN, 16 RTCX1, 17 ~{RESET}, 18 RTCX2, 19 VBAT, 20 P1[31]/SCK1/AD0[5], 21 P1[30]/VBUS/AD0[4], 22 XTAL1, 23 XTAL2, 24 P0[28]/SCL0/USB_SCL, 25 P0[27]/SDA0/USB_SDA, 28 VDD(3V3), 29 P0[29]/USB_D+, 30 P0[30]/USB_D-, 31 VSS, 32 P1[18]/USB_UP_LED/PWM1[1]/CAP1[0], 33 P1[19]/MCOA0/~{USB_PPWR}/CAP1[1], 34 P1[20]/MCI0/PWM1[2]/SCK0, 35 P1[21]/~{MCABORT}/PWM1[3]/SSEL0, 36 P1[22]/MCOB0/USB_PWRD/MAT1[0], 37 P1[23]/MCI1/PWM1[4]/MISO0, 38 P1[24]/MCI2/PWM1[5]/MOSI0, 39 P1[25]/MCOA1/MAT1[1], 40 P1[26]/MCOB1/PWM1[6]/CAP0[0], 41 VSS, 42 VDD(REG)(3V3), 43 P1[27]/CLKOUT/~{USB_OVRCR}/CAP0[1], 44 P1[28]/MCOA2/PCAP1[0]/MAT0[0], 45 P1[29]/MCOB2/PCAP1[1]/MAT0[1], 46 P0[0]/RD1/TXD3/SDA1, 47 P0[1]/TD1/RXD3/SCL1, 48 P0[10]/TXD2/SDA2/MAT3[0], 49 P0[11]/RXD2/SCL2/MAT3[1], 54 VDD(3V3), 55 VSS, 56 P0[22]/RTS1/TD1, 57 P0[21]/RI1/RD1, 58 P0[20]/DTR1/SCL1, 59 P0[19]/DSR1/SDA1, 60 P0[18]/DCD1/MOSI0/MOSI, 61 P0[17]/CTS1/MISO0/MISO, 62 P0[15]/TXD1/SCK0/SCK, 63 P0[16]/RXD1/SSEL0/SSEL, 71 VDD(3V3), 72 VSS, 76 P0[9]/I2STX_SDA/MOSI1/MAT2[3], 77 P0[8]/I2STX_WS/MISO1/MAT2[2], 78 P0[7]/I2STX_CLK/SCK1/MAT2[1], 79 P0[6]/I2SRX_SDA/SSEL1/MAT2[0], 80 P0[5]/I2SRX_WS/TD2/CAP2[1], 81 P0[4]/I2SRX_CLK/RD2/CAP2[0], 83 VSS, 84 VDD(REG)(3V3), 86 P1[17]/ENET_MDIO, 87 P1[16]/ENET_MDC, 88 P1[15]/ENET_REF_CLK, 89 P1[14]/ENET_RX_ER, 90 P1[10]/ENET_RXD1, 91 P1[9]/ENET_RXD0, 92 P1[8]/ENET_CRS, 93 P1[4]/ENET_TX_EN, 94 P1[1]/ENET_TXD1, 95 P1[0]/ENET_TXD0, 96 VDD(3V3), 97 VSS, 98 P0[2]/TXD0/AD0[7], 99 P0[3]/RXD0/AD0[6], 100 RTCK
part B pins: 26 P3[26]/STCLK/MAT0[1]/PWM1[3], 27 P3[25]/MAT0[0]/PWM1[2], 50 P2[13]/~{EINT3}/I2STX_SDA, 51 P2[12]/~{EINT2}/I2STX_WS, 52 P2[11]/~{EINT1}/I2STX_CLK, 53 P2[10]/~{EINT0}/NMI, 64 P2[9]/USB_CONNECT/RXD2, 65 P2[8]/TD2/TXD2, 66 P2[7]/RD2/RTS1, 67 P2[6]/PCAP1[0]/RI1/TRACECLK, 68 P2[5]/PWM1[6]/DTR1/TRACEDATA[0], 69 P2[4]/PWM1[5]/DSR1/TRACEDATA[1], 70 P2[3]/PWM1[4]/DCD1/TRACEDATA[2], 73 P2[2]/PWM1[3]/CTS1/TRACEDATA[3], 74 P2[1]/PWM1[2]/RXD1, 75 P2[0]/PWM1[1]/TXD1, 82 P4[28]/RX_MCLK/MAT2[0]/TXD3, 85 P4[29]/TX_MCLK/MAT2[1]/RXD3

## LPC1768FBD100,551
designator IC?
IC MCU 32BIT 512KB FLASH 100LQFP; Manufacturer: NXP USA Inc.; Connectivity: CANbus, Ethernet, I²C, IrDA, Microwire, SPI, SSI, UART/USART, USB OTG; Core Processor: ARM® Cortex®-M3; Core Size: 32-Bit; Data Converters: A/D 8x12b; D/A 1x10b; Number of I/O: 70; Oscillator Type: Internal; Peripherals: Brown-out Detect/Reset, DMA, I²S, Motor Control PWM, POR, PWM, WDT; Program Memory Size: 512KB (512K x 8); RAM Size: 64K x 8; Speed: 100MHz; Voltage - Supply (Vcc/Vdd): 2.4V ~ 3.6V; Part Number: LPC1768FBD100,551; ComponentLink1Description: Datasheet; ComponentLink1URL: https://www.nxp.com/docs/en/data-sheet/LPC1769_68_67_66_65_64_63.pdf; ComponentLink2Description: DigiKey Link; ComponentLink2URL: //digikey.com/product-detail/en/nxp-usa-inc/LPC1768FBD100551/568-4796-ND/2089968; Device Package: 100-LQFP; LastUpdated: 12/3/2019 10:11:29 PM; Lifecycle Status: 0; Minimum Order: 1; Mounting Type: Surface Mount; Operating Temperature: -40°C ~ 85°C (TA); Package / Case: 100-LQFP; Packaging: Tray; PartId: 55; Part Status: Active; Price: 11.25; Program Memory Type: FLASH; Series: LPC17xx; Supplier 1: DigiKey; Supplier Part Number 1: 568-4796-ND; Supplier Device Package: 100-LQFP (14x14)
footprint NXP LQFP-100 14X14MM
part A pins: 1 TDO/SWO, 2 TDI, 3 TMS/SWDIO, 4 ~{TRST}, 5 TCK/SWDCLK, 6 P0[26]/AD0[3]/AOUT/RXD3, 7 P0[25]/AD0[2]/I2SRX_SDA/TXD3, 8 P0[24]/AD0[1]/I2SRX_WS/CAP3[1], 9 P0[23]/AD0[0]/I2SRX_CLK/CAP3[0], 10 VDDA, 11 VSSA, 12 VREFP, 14 ~{RSTOUT}, 15 VREFN, 16 RTCX1, 17 ~{RESET}, 18 RTCX2, 19 VBAT, 20 P1[31]/SCK1/AD0[5], 21 P1[30]/VBUS/AD0[4], 22 XTAL1, 23 XTAL2, 24 P0[28]/SCL0/USB_SCL, 25 P0[27]/SDA0/USB_SDA, 28 VDD(3V3), 29 P0[29]/USB_D+, 30 P0[30]/USB_D-, 31 VSS, 32 P1[18]/USB_UP_LED/PWM1[1]/CAP1[0], 33 P1[19]/MCOA0/~{USB_PPWR}/CAP1[1], 34 P1[20]/MCI0/PWM1[2]/SCK0, 35 P1[21]/~{MCABORT}/PWM1[3]/SSEL0, 36 P1[22]/MCOB0/USB_PWRD/MAT1[0], 37 P1[23]/MCI1/PWM1[4]/MISO0, 38 P1[24]/MCI2/PWM1[5]/MOSI0, 39 P1[25]/MCOA1/MAT1[1], 40 P1[26]/MCOB1/PWM1[6]/CAP0[0], 41 VSS, 42 VDD(REG)(3V3), 43 P1[27]/CLKOUT/~{USB_OVRCR}/CAP0[1], 44 P1[28]/MCOA2/PCAP1[0]/MAT0[0], 45 P1[29]/MCOB2/PCAP1[1]/MAT0[1], 46 P0[0]/RD1/TXD3/SDA1, 47 P0[1]/TD1/RXD3/SCL1, 48 P0[10]/TXD2/SDA2/MAT3[0], 49 P0[11]/RXD2/SCL2/MAT3[1], 54 VDD(3V3), 55 VSS, 56 P0[22]/RTS1/TD1, 57 P0[21]/RI1/RD1, 58 P0[20]/DTR1/SCL1, 59 P0[19]/DSR1/SDA1, 60 P0[18]/DCD1/MOSI0/MOSI, 61 P0[17]/CTS1/MISO0/MISO, 62 P0[15]/TXD1/SCK0/SCK, 63 P0[16]/RXD1/SSEL0/SSEL, 71 VDD(3V3), 72 VSS, 76 P0[9]/I2STX_SDA/MOSI1/MAT2[3], 77 P0[8]/I2STX_WS/MISO1/MAT2[2], 78 P0[7]/I2STX_CLK/SCK1/MAT2[1], 79 P0[6]/I2SRX_SDA/SSEL1/MAT2[0], 80 P0[5]/I2SRX_WS/TD2/CAP2[1], 81 P0[4]/I2SRX_CLK/RD2/CAP2[0], 83 VSS, 84 VDD(REG)(3V3), 86 P1[17]/ENET_MDIO, 87 P1[16]/ENET_MDC, 88 P1[15]/ENET_REF_CLK, 89 P1[14]/ENET_RX_ER, 90 P1[10]/ENET_RXD1, 91 P1[9]/ENET_RXD0, 92 P1[8]/ENET_CRS, 93 P1[4]/ENET_TX_EN, 94 P1[1]/ENET_TXD1, 95 P1[0]/ENET_TXD0, 96 VDD(3V3), 97 VSS, 98 P0[2]/TXD0/AD0[7], 99 P0[3]/RXD0/AD0[6], 100 RTCK
part B pins: 26 P3[26]/STCLK/MAT0[1]/PWM1[3], 27 P3[25]/MAT0[0]/PWM1[2], 50 P2[13]/~{EINT3}/I2STX_SDA, 51 P2[12]/~{EINT2}/I2STX_WS, 52 P2[11]/~{EINT1}/I2STX_CLK, 53 P2[10]/~{EINT0}/NMI, 64 P2[9]/USB_CONNECT/RXD2, 65 P2[8]/TD2/TXD2, 66 P2[7]/RD2/RTS1, 67 P2[6]/PCAP1[0]/RI1/TRACECLK, 68 P2[5]/PWM1[6]/DTR1/TRACEDATA[0], 69 P2[4]/PWM1[5]/DSR1/TRACEDATA[1], 70 P2[3]/PWM1[4]/DCD1/TRACEDATA[2], 73 P2[2]/PWM1[3]/CTS1/TRACEDATA[3], 74 P2[1]/PWM1[2]/RXD1, 75 P2[0]/PWM1[1]/TXD1, 82 P4[28]/RX_MCLK/MAT2[0]/TXD3, 85 P4[29]/TX_MCLK/MAT2[1]/RXD3

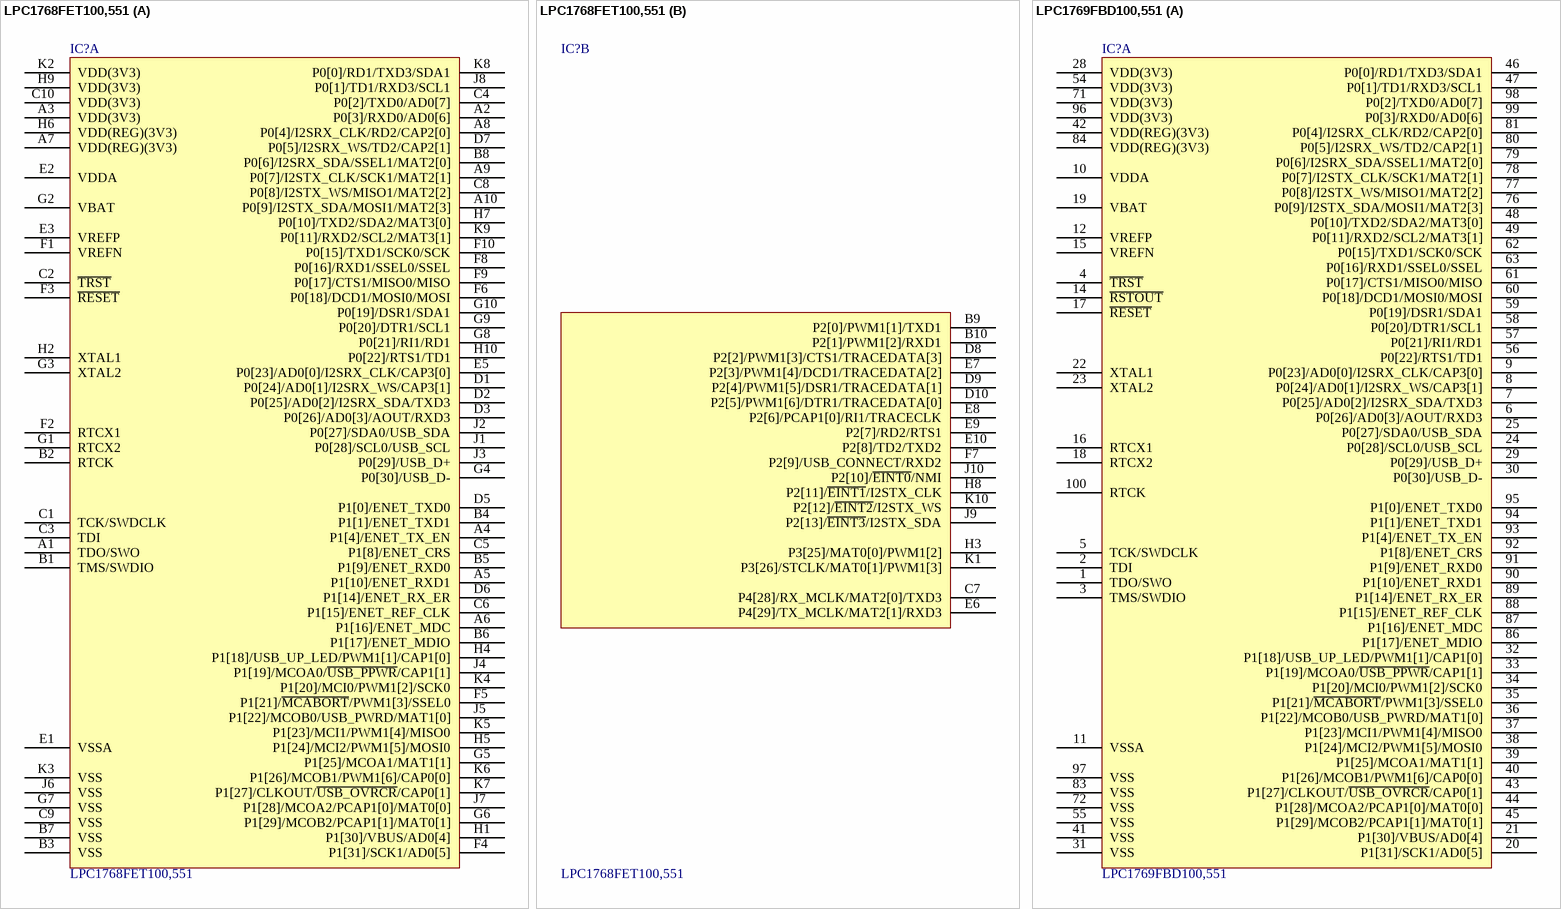
[diagram p21: symbols LPC1768FET100,551 to LPC1769FBD100,551]

## LPC1768FET100,551
designator IC?
IC MCU 32BIT 512KB FLASH 100BGA; Manufacturer: NXP USA Inc.; Connectivity: CANbus, Ethernet, I²C, IrDA, Microwire, SPI, SSI, UART/USART, USB OTG; Core Processor: ARM® Cortex®-M3; Core Size: 32-Bit; Data Converters: A/D 8x12b; D/A 1x10b; Number of I/O: 70; Oscillator Type: Internal; Peripherals: Brown-out Detect/Reset, DMA, I²S, Motor Control PWM, POR, PWM, WDT; Program Memory Size: 512KB (512K x 8); RAM Size: 64K x 8; Speed: 100MHz; Voltage - Supply (Vcc/Vdd): 2.4V ~ 3.6V; Part Number: LPC1768FET100,551; ComponentLink1Description: Datasheet; ComponentLink1URL: https://www.nxp.com/docs/en/data-sheet/LPC1769_68_67_66_65_64_63.pdf; ComponentLink2Description: DigiKey Link; ComponentLink2URL: //digikey.com/product-detail/en/nxp-usa-inc/LPC1768FET100551/568-5215-ND/2530331; Device Package: 100-TFBGA; LastUpdated: 12/3/2019 10:12:02 PM; Lifecycle Status: 0; Minimum Order: 1; Mounting Type: Surface Mount; Operating Temperature: -40°C ~ 85°C (TA); Package / Case: 100-TFBGA; Packaging: Tray; PartId: 56; Part Status: Active; Price: 11.25; Program Memory Type: FLASH; Series: LPC17xx; Supplier 1: DigiKey; Supplier Part Number 1: 568-5215-ND; Supplier Device Package: 100-TFBGA (9x9)
footprint NXP TFBGA-100 9X9MM
part A pins: A1 TDO/SWO, A2 P0[3]/RXD0/AD0[6], A3 VDD(3V3), A4 P1[4]/ENET_TX_EN, A5 P1[10]/ENET_RXD1, A6 P1[16]/ENET_MDC, A7 VDD(REG)(3V3), A8 P0[4]/I2SRX_CLK/RD2/CAP2[0], A9 P0[7]/I2STX_CLK/SCK1/MAT2[1], A10 P0[9]/I2STX_SDA/MOSI1/MAT2[3], B1 TMS/SWDIO, B2 RTCK, B3 VSS, B4 P1[1]/ENET_TXD1, B5 P1[9]/ENET_RXD0, B6 P1[17]/ENET_MDIO, B7 VSS, B8 P0[6]/I2SRX_SDA/SSEL1/MAT2[0], C1 TCK/SWDCLK, C2 ~{TRST}, C3 TDI, C4 P0[2]/TXD0/AD0[7], C5 P1[8]/ENET_CRS, C6 P1[15]/ENET_REF_CLK, C8 P0[8]/I2STX_WS/MISO1/MAT2[2], C9 VSS, C10 VDD(3V3), D1 P0[24]/AD0[1]/I2SRX_WS/CAP3[1], D2 P0[25]/AD0[2]/I2SRX_SDA/TXD3, D3 P0[26]/AD0[3]/AOUT/RXD3, D5 P1[0]/ENET_TXD0, D6 P1[14]/ENET_RX_ER, D7 P0[5]/I2SRX_WS/TD2/CAP2[1], E1 VSSA, E2 VDDA, E3 VREFP, E5 P0[23]/AD0[0]/I2SRX_CLK/CAP3[0], F1 VREFN, F2 RTCX1, F3 ~{RESET}, F4 P1[31]/SCK1/AD0[5], F5 P1[21]/~{MCABORT}/PWM1[3]/SSEL0, F6 P0[18]/DCD1/MOSI0/MOSI, F8 P0[16]/RXD1/SSEL0/SSEL, F9 P0[17]/CTS1/MISO0/MISO, F10 P0[15]/TXD1/SCK0/SCK, G1 RTCX2, G2 VBAT, G3 XTAL2, G4 P0[30]/USB_D-, G5 P1[25]/MCOA1/MAT1[1], G6 P1[29]/MCOB2/PCAP1[1]/MAT0[1], G7 VSS, G8 P0[21]/RI1/RD1, G9 P0[20]/DTR1/SCL1, G10 P0[19]/DSR1/SDA1, H1 P1[30]/VBUS/AD0[4], H2 XTAL1, H4 P1[18]/USB_UP_LED/PWM1[1]/CAP1[0], H5 P1[24]/MCI2/PWM1[5]/MOSI0, H6 VDD(REG)(3V3), H7 P0[10]/TXD2/SDA2/MAT3[0], H9 VDD(3V3), H10 P0[22]/RTS1/TD1, J1 P0[28]/SCL0/USB_SCL, J2 P0[27]/SDA0/USB_SDA, J3 P0[29]/USB_D+, J4 P1[19]/MCOA0/~{USB_PPWR}/CAP1[1], J5 P1[22]/MCOB0/USB_PWRD/MAT1[0], J6 VSS, J7 P1[28]/MCOA2/PCAP1[0]/MAT0[0], J8 P0[1]/TD1/RXD3/SCL1, K2 VDD(3V3), K3 VSS, K4 P1[20]/MCI0/PWM1[2]/SCK0, K5 P1[23]/MCI1/PWM1[4]/MISO0, K6 P1[26]/MCOB1/PWM1[6]/CAP0[0], K7 P1[27]/CLKOUT/~{USB_OVRCR}/CAP0[1], K8 P0[0]/RD1/TXD3/SDA1, K9 P0[11]/RXD2/SCL2/MAT3[1]
part B pins: B9 P2[0]/PWM1[1]/TXD1, B10 P2[1]/PWM1[2]/RXD1, C7 P4[28]/RX_MCLK/MAT2[0]/TXD3, D8 P2[2]/PWM1[3]/CTS1/TRACEDATA[3], D9 P2[4]/PWM1[5]/DSR1/TRACEDATA[1], D10 P2[5]/PWM1[6]/DTR1/TRACEDATA[0], E6 P4[29]/TX_MCLK/MAT2[1]/RXD3, E7 P2[3]/PWM1[4]/DCD1/TRACEDATA[2], E8 P2[6]/PCAP1[0]/RI1/TRACECLK, E9 P2[7]/RD2/RTS1, E10 P2[8]/TD2/TXD2, F7 P2[9]/USB_CONNECT/RXD2, H3 P3[25]/MAT0[0]/PWM1[2], H8 P2[11]/~{EINT1}/I2STX_CLK, J9 P2[13]/~{EINT3}/I2STX_SDA, J10 P2[10]/~{EINT0}/NMI, K1 P3[26]/STCLK/MAT0[1]/PWM1[3], K10 P2[12]/~{EINT2}/I2STX_WS

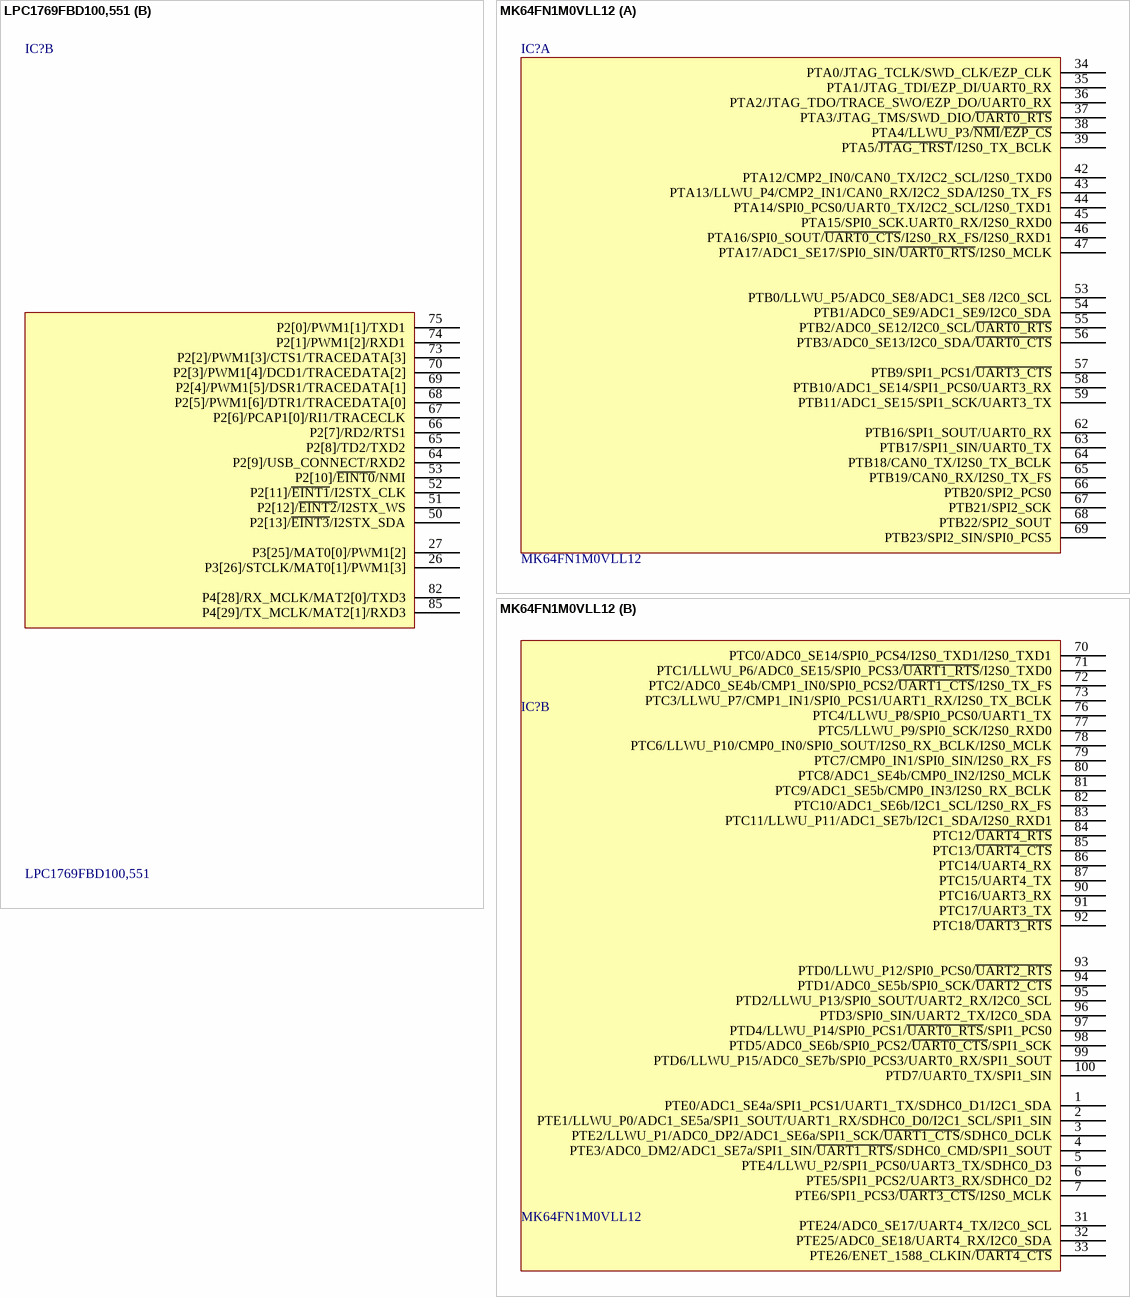
[diagram p22: symbols LPC1769FBD100,551 to MK64FN1M0VLL12]

## LPC1769FBD100,551
designator IC?
IC MCU 32BIT 512KB FLASH 100LQFP; Manufacturer: NXP USA Inc.; Connectivity: CANbus, Ethernet, I²C, IrDA, Microwire, SPI, SSI, UART/USART, USB OTG; Core Processor: ARM® Cortex®-M3; Core Size: 32-Bit; Data Converters: A/D 8x12b; D/A 1x10b; Number of I/O: 70; Oscillator Type: Internal; Peripherals: Brown-out Detect/Reset, DMA, I²S, Motor Control PWM, POR, PWM, WDT; Program Memory Size: 512KB (512K x 8); RAM Size: 64K x 8; Speed: 120MHz; Voltage - Supply (Vcc/Vdd): 2.4V ~ 3.6V; Part Number: LPC1769FBD100,551; ComponentLink1Description: Datasheet; ComponentLink1URL: https://www.nxp.com/docs/en/data-sheet/LPC1769_68_67_66_65_64_63.pdf; ComponentLink2Description: DigiKey Link; ComponentLink2URL: //digikey.com/product-detail/en/nxp-usa-inc/LPC1769FBD100551/568-4966-ND/2206364; Device Package: 100-LQFP; LastUpdated: 12/3/2019 10:12:33 PM; Lifecycle Status: 0; Minimum Order: 1; Mounting Type: Surface Mount; Operating Temperature: -40°C ~ 85°C (TA); Package / Case: 100-LQFP; Packaging: Tray; PartId: 57; Part Status: Active; Price: 11.75; Program Memory Type: FLASH; Series: LPC17xx; Supplier 1: DigiKey; Supplier Part Number 1: 568-4966-ND; Supplier Device Package: 100-LQFP (14x14)
footprint NXP LQFP-100 14X14MM
part A pins: 1 TDO/SWO, 2 TDI, 3 TMS/SWDIO, 4 ~{TRST}, 5 TCK/SWDCLK, 6 P0[26]/AD0[3]/AOUT/RXD3, 7 P0[25]/AD0[2]/I2SRX_SDA/TXD3, 8 P0[24]/AD0[1]/I2SRX_WS/CAP3[1], 9 P0[23]/AD0[0]/I2SRX_CLK/CAP3[0], 10 VDDA, 11 VSSA, 12 VREFP, 14 ~{RSTOUT}, 15 VREFN, 16 RTCX1, 17 ~{RESET}, 18 RTCX2, 19 VBAT, 20 P1[31]/SCK1/AD0[5], 21 P1[30]/VBUS/AD0[4], 22 XTAL1, 23 XTAL2, 24 P0[28]/SCL0/USB_SCL, 25 P0[27]/SDA0/USB_SDA, 28 VDD(3V3), 29 P0[29]/USB_D+, 30 P0[30]/USB_D-, 31 VSS, 32 P1[18]/USB_UP_LED/PWM1[1]/CAP1[0], 33 P1[19]/MCOA0/~{USB_PPWR}/CAP1[1], 34 P1[20]/MCI0/PWM1[2]/SCK0, 35 P1[21]/~{MCABORT}/PWM1[3]/SSEL0, 36 P1[22]/MCOB0/USB_PWRD/MAT1[0], 37 P1[23]/MCI1/PWM1[4]/MISO0, 38 P1[24]/MCI2/PWM1[5]/MOSI0, 39 P1[25]/MCOA1/MAT1[1], 40 P1[26]/MCOB1/PWM1[6]/CAP0[0], 41 VSS, 42 VDD(REG)(3V3), 43 P1[27]/CLKOUT/~{USB_OVRCR}/CAP0[1], 44 P1[28]/MCOA2/PCAP1[0]/MAT0[0], 45 P1[29]/MCOB2/PCAP1[1]/MAT0[1], 46 P0[0]/RD1/TXD3/SDA1, 47 P0[1]/TD1/RXD3/SCL1, 48 P0[10]/TXD2/SDA2/MAT3[0], 49 P0[11]/RXD2/SCL2/MAT3[1], 54 VDD(3V3), 55 VSS, 56 P0[22]/RTS1/TD1, 57 P0[21]/RI1/RD1, 58 P0[20]/DTR1/SCL1, 59 P0[19]/DSR1/SDA1, 60 P0[18]/DCD1/MOSI0/MOSI, 61 P0[17]/CTS1/MISO0/MISO, 62 P0[15]/TXD1/SCK0/SCK, 63 P0[16]/RXD1/SSEL0/SSEL, 71 VDD(3V3), 72 VSS, 76 P0[9]/I2STX_SDA/MOSI1/MAT2[3], 77 P0[8]/I2STX_WS/MISO1/MAT2[2], 78 P0[7]/I2STX_CLK/SCK1/MAT2[1], 79 P0[6]/I2SRX_SDA/SSEL1/MAT2[0], 80 P0[5]/I2SRX_WS/TD2/CAP2[1], 81 P0[4]/I2SRX_CLK/RD2/CAP2[0], 83 VSS, 84 VDD(REG)(3V3), 86 P1[17]/ENET_MDIO, 87 P1[16]/ENET_MDC, 88 P1[15]/ENET_REF_CLK, 89 P1[14]/ENET_RX_ER, 90 P1[10]/ENET_RXD1, 91 P1[9]/ENET_RXD0, 92 P1[8]/ENET_CRS, 93 P1[4]/ENET_TX_EN, 94 P1[1]/ENET_TXD1, 95 P1[0]/ENET_TXD0, 96 VDD(3V3), 97 VSS, 98 P0[2]/TXD0/AD0[7], 99 P0[3]/RXD0/AD0[6], 100 RTCK
part B pins: 26 P3[26]/STCLK/MAT0[1]/PWM1[3], 27 P3[25]/MAT0[0]/PWM1[2], 50 P2[13]/~{EINT3}/I2STX_SDA, 51 P2[12]/~{EINT2}/I2STX_WS, 52 P2[11]/~{EINT1}/I2STX_CLK, 53 P2[10]/~{EINT0}/NMI, 64 P2[9]/USB_CONNECT/RXD2, 65 P2[8]/TD2/TXD2, 66 P2[7]/RD2/RTS1, 67 P2[6]/PCAP1[0]/RI1/TRACECLK, 68 P2[5]/PWM1[6]/DTR1/TRACEDATA[0], 69 P2[4]/PWM1[5]/DSR1/TRACEDATA[1], 70 P2[3]/PWM1[4]/DCD1/TRACEDATA[2], 73 P2[2]/PWM1[3]/CTS1/TRACEDATA[3], 74 P2[1]/PWM1[2]/RXD1, 75 P2[0]/PWM1[1]/TXD1, 82 P4[28]/RX_MCLK/MAT2[0]/TXD3, 85 P4[29]/TX_MCLK/MAT2[1]/RXD3

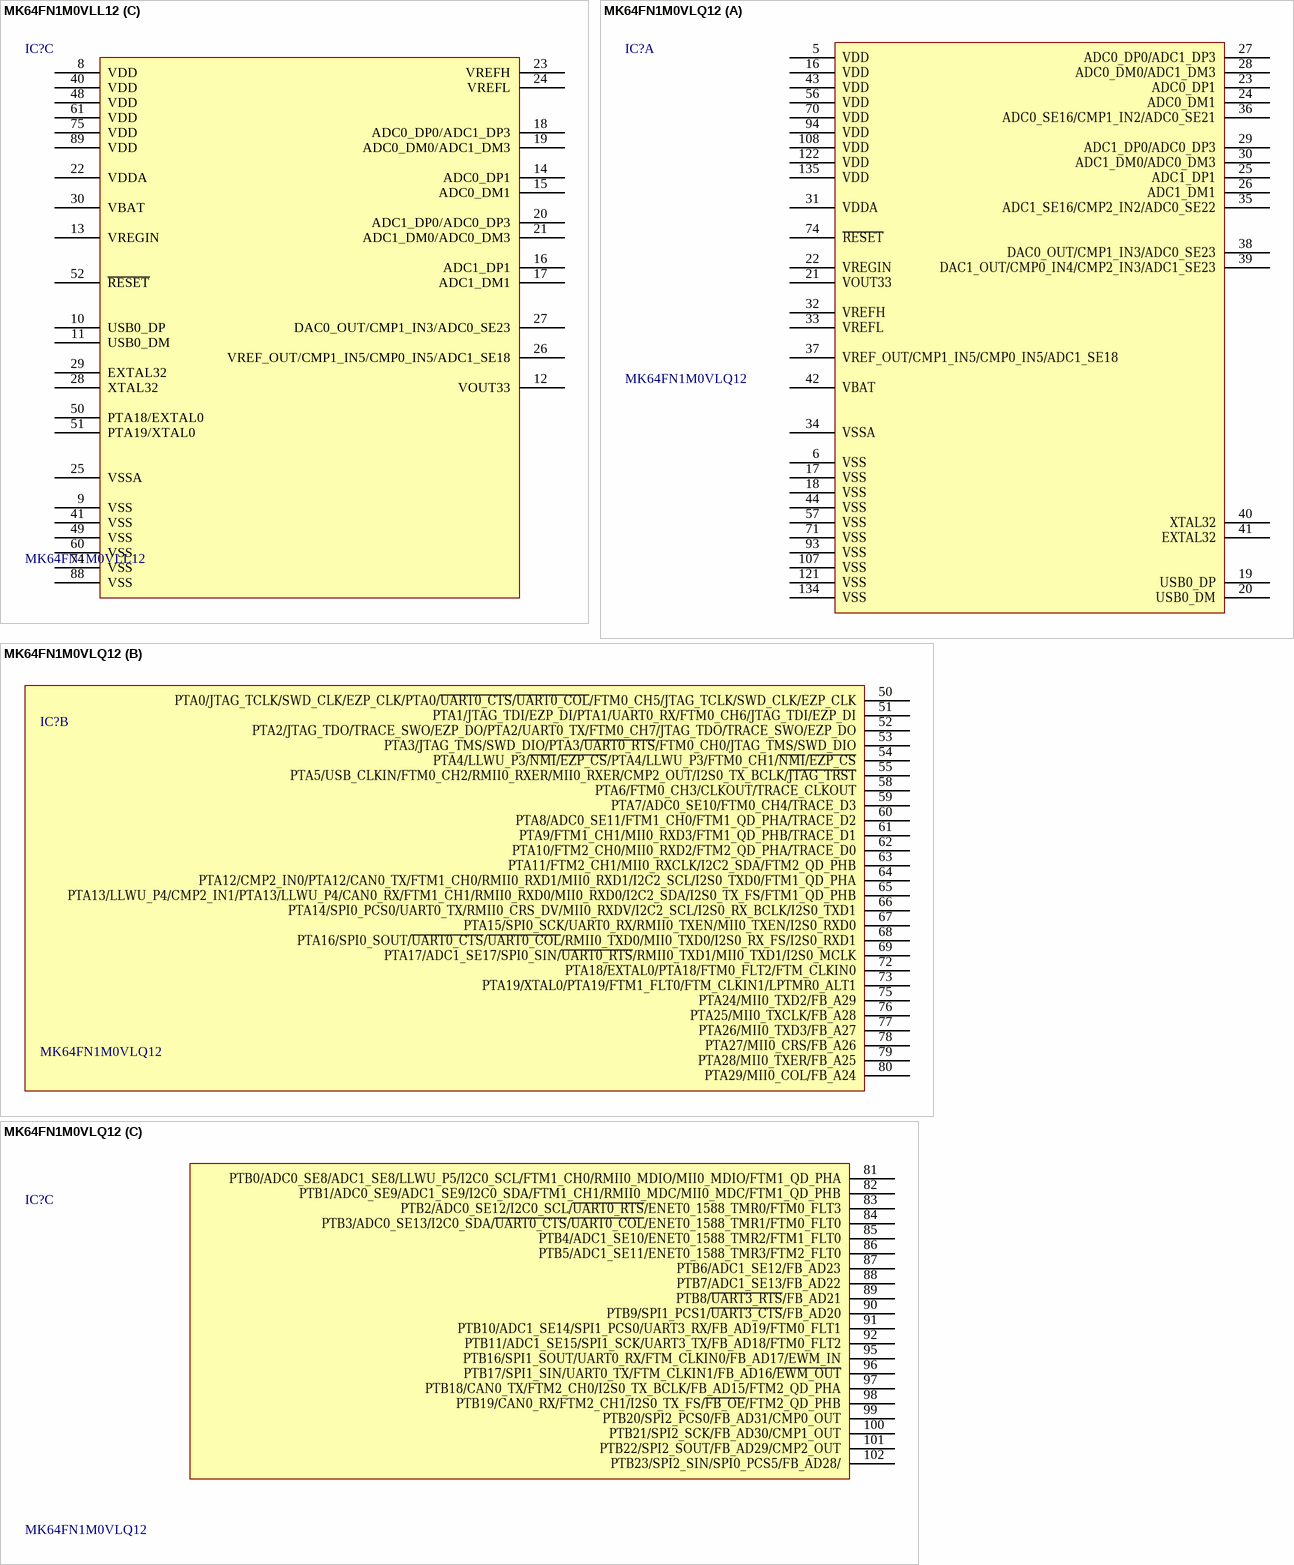
[diagram p23: symbols MK64FN1M0VLL12 to MK64FN1M0VLQ12]

## MK64FN1M0VLL12
designator IC?
IC MCU 32BIT 1MB FLASH 100LQFP; Manufacturer: NXP USA Inc.; Connectivity: CANbus, EBI/EMI, Ethernet, I²C, IrDA, SD, SPI, UART/USART, USB, USB OTG; Core Processor: ARM® Cortex®-M4; Core Size: 32-Bit; Data Converters: A/D 32x16b; D/A 1x12b; Number of I/O: 66; Oscillator Type: Internal; Peripherals: DMA, I²S, LVD, POR, PWM, WDT; Program Memory Size: 1MB (1M x 8); RAM Size: 256K x 8; Speed: 120MHz; Voltage - Supply (Vcc/Vdd): 1.71V ~ 3.6V; Part Number: MK64FN1M0VLL12; ComponentLink1Description: Datasheet; ComponentLink1URL: http://cache.freescale.com/files/microcontrollers/doc/data_sheet/K64P144M120SF5.pdf; ComponentLink2Description: DigiKey Link; ComponentLink2URL: //digikey.com/product-detail/en/nxp-usa-inc/MK64FN1M0VLL12/MK64FN1M0VLL12-ND/4462052; Device Package: 100-LQFP; LastUpdated: 12/3/2019 10:27:07 PM; Lifecycle Status: 0; Minimum Order: 1; Mounting Type: Surface Mount; Operating Temperature: -40°C ~ 105°C (TA); Package / Case: 100-LQFP; Packaging: Tray; PartId: 59; Part Status: Active; Price: 14.37; Program Memory Type: FLASH; Series: Kinetis K60; Supplier 1: DigiKey; Supplier Part Number 1: MK64FN1M0VLL12-ND; Supplier Device Package: 100-LQFP (14x14)
footprint NXP LQFP-100 14X14MM
part A pins: 34 PTA0/JTAG_TCLK/SWD_CLK/EZP_CLK, 35 PTA1/JTAG_TDI/EZP_DI/UART0_RX, 36 PTA2/JTAG_TDO/TRACE_SWO/EZP_DO/UART0_RX, 37 PTA3/JTAG_TMS/SWD_DIO/~{UART0_RTS}, 38 PTA4/LLWU_P3/~{NMI}/~{EZP_CS}, 39 PTA5/~{JTAG_TRST}/I2S0_TX_BCLK, 42 PTA12/CMP2_IN0/CAN0_TX/I2C2_SCL/I2S0_TXD0, 43 PTA13/LLWU_P4/CMP2_IN1/CAN0_RX/I2C2_SDA/I2S0_TX_FS, 44 PTA14/SPI0_PCS0/UART0_TX/I2C2_SCL/I2S0_TXD1, 45 PTA15/SPI0_SCK.UART0_RX/I2S0_RXD0, 46 PTA16/SPI0_SOUT/~{UART0_CTS}/I2S0_RX_FS/I2S0_RXD1, 47 PTA17/ADC1_SE17/SPI0_SIN/~{UART0_RTS}/I2S0_MCLK, 53 PTB0/LLWU_P5/ADC0_SE8/ADC1_SE8 /I2C0_SCL, 54 PTB1/ADC0_SE9/ADC1_SE9/I2C0_SDA, 55 PTB2/ADC0_SE12/I2C0_SCL/~{UART0_RTS}, 56 PTB3/ADC0_SE13/I2C0_SDA/~{UART0_CTS}, 57 PTB9/SPI1_PCS1/~{UART3_CTS}, 58 PTB10/ADC1_SE14/SPI1_PCS0/UART3_RX, 59 PTB11/ADC1_SE15/SPI1_SCK/UART3_TX, 62 PTB16/SPI1_SOUT/UART0_RX, 63 PTB17/SPI1_SIN/UART0_TX, 64 PTB18/CAN0_TX/I2S0_TX_BCLK, 65 PTB19/CAN0_RX/I2S0_TX_FS, 66 PTB20/SPI2_PCS0, 67 PTB21/SPI2_SCK, 68 PTB22/SPI2_SOUT, 69 PTB23/SPI2_SIN/SPI0_PCS5
part B pins: 1 PTE0/ADC1_SE4a/SPI1_PCS1/UART1_TX/SDHC0_D1/I2C1_SDA, 2 PTE1/LLWU_P0/ADC1_SE5a/SPI1_SOUT/UART1_RX/SDHC0_D0/I2C1_SCL/SPI1_SIN, 3 PTE2/LLWU_P1/ADC0_DP2/ADC1_SE6a/SPI1_SCK/~{UART1_CTS}/SDHC0_DCLK, 4 PTE3/ADC0_DM2/ADC1_SE7a/SPI1_SIN/~{UART1_RTS}/SDHC0_CMD/SPI1_SOUT, 5 PTE4/LLWU_P2/SPI1_PCS0/UART3_TX/SDHC0_D3, 6 PTE5/SPI1_PCS2/UART3_RX/SDHC0_D2, 7 PTE6/SPI1_PCS3/~{UART3_CTS}/I2S0_MCLK, 31 PTE24/ADC0_SE17/UART4_TX/I2C0_SCL, 32 PTE25/ADC0_SE18/UART4_RX/I2C0_SDA, 33 PTE26/ENET_1588_CLKIN/~{UART4_CTS}, 70 PTC0/ADC0_SE14/SPI0_PCS4/I2S0_TXD1/I2S0_TXD1, 71 PTC1/LLWU_P6/ADC0_SE15/SPI0_PCS3/~{UART1_RTS}/I2S0_TXD0, 72 PTC2/ADC0_SE4b/CMP1_IN0/SPI0_PCS2/~{UART1_CTS}/I2S0_TX_FS, 73 PTC3/LLWU_P7/CMP1_IN1/SPI0_PCS1/UART1_RX/I2S0_TX_BCLK, 76 PTC4/LLWU_P8/SPI0_PCS0/UART1_TX, 77 PTC5/LLWU_P9/SPI0_SCK/I2S0_RXD0, 78 PTC6/LLWU_P10/CMP0_IN0/SPI0_SOUT/I2S0_RX_BCLK/I2S0_MCLK, 79 PTC7/CMP0_IN1/SPI0_SIN/I2S0_RX_FS, 80 PTC8/ADC1_SE4b/CMP0_IN2/I2S0_MCLK, 81 PTC9/ADC1_SE5b/CMP0_IN3/I2S0_RX_BCLK, 82 PTC10/ADC1_SE6b/I2C1_SCL/I2S0_RX_FS, 83 PTC11/LLWU_P11/ADC1_SE7b/I2C1_SDA/I2S0_RXD1, 84 PTC12/~{UART4_RTS}, 85 PTC13/~{UART4_CTS}, 86 PTC14/UART4_RX, 87 PTC15/UART4_TX, 90 PTC16/UART3_RX, 91 PTC17/UART3_TX, 92 PTC18/~{UART3_RTS}, 93 PTD0/LLWU_P12/SPI0_PCS0/~{UART2_RTS}, 94 PTD1/ADC0_SE5b/SPI0_SCK/~{UART2_CTS}, 95 PTD2/LLWU_P13/SPI0_SOUT/UART2_RX/I2C0_SCL, 96 PTD3/SPI0_SIN/UART2_TX/I2C0_SDA, 97 PTD4/LLWU_P14/SPI0_PCS1/~{UART0_RTS}/SPI1_PCS0, 98 PTD5/ADC0_SE6b/SPI0_PCS2/~{UART0_CTS}/SPI1_SCK, 99 PTD6/LLWU_P15/ADC0_SE7b/SPI0_PCS3/UART0_RX/SPI1_SOUT, 100 PTD7/UART0_TX/SPI1_SIN
part C pins: 8 VDD, 9 VSS, 10 USB0_DP, 11 USB0_DM, 12 VOUT33, 13 VREGIN, 14 ADC0_DP1, 15 ADC0_DM1, 16 ADC1_DP1, 17 ADC1_DM1, 18 ADC0_DP0/ADC1_DP3, 19 ADC0_DM0/ADC1_DM3, 20 ADC1_DP0/ADC0_DP3, 21 ADC1_DM0/ADC0_DM3, 22 VDDA, 23 VREFH, 24 VREFL, 25 VSSA, 26 VREF_OUT/CMP1_IN5/CMP0_IN5/ADC1_SE18, 27 DAC0_OUT/CMP1_IN3/ADC0_SE23, 28 XTAL32, 29 EXTAL32, 30 VBAT, 40 VDD, 41 VSS, 48 VDD, 49 VSS, 50 PTA18/EXTAL0 , 51 PTA19/XTAL0, 52 ~{RESET}, 60 VSS, 61 VDD, 74 VSS, 75 VDD, 88 VSS, 89 VDD

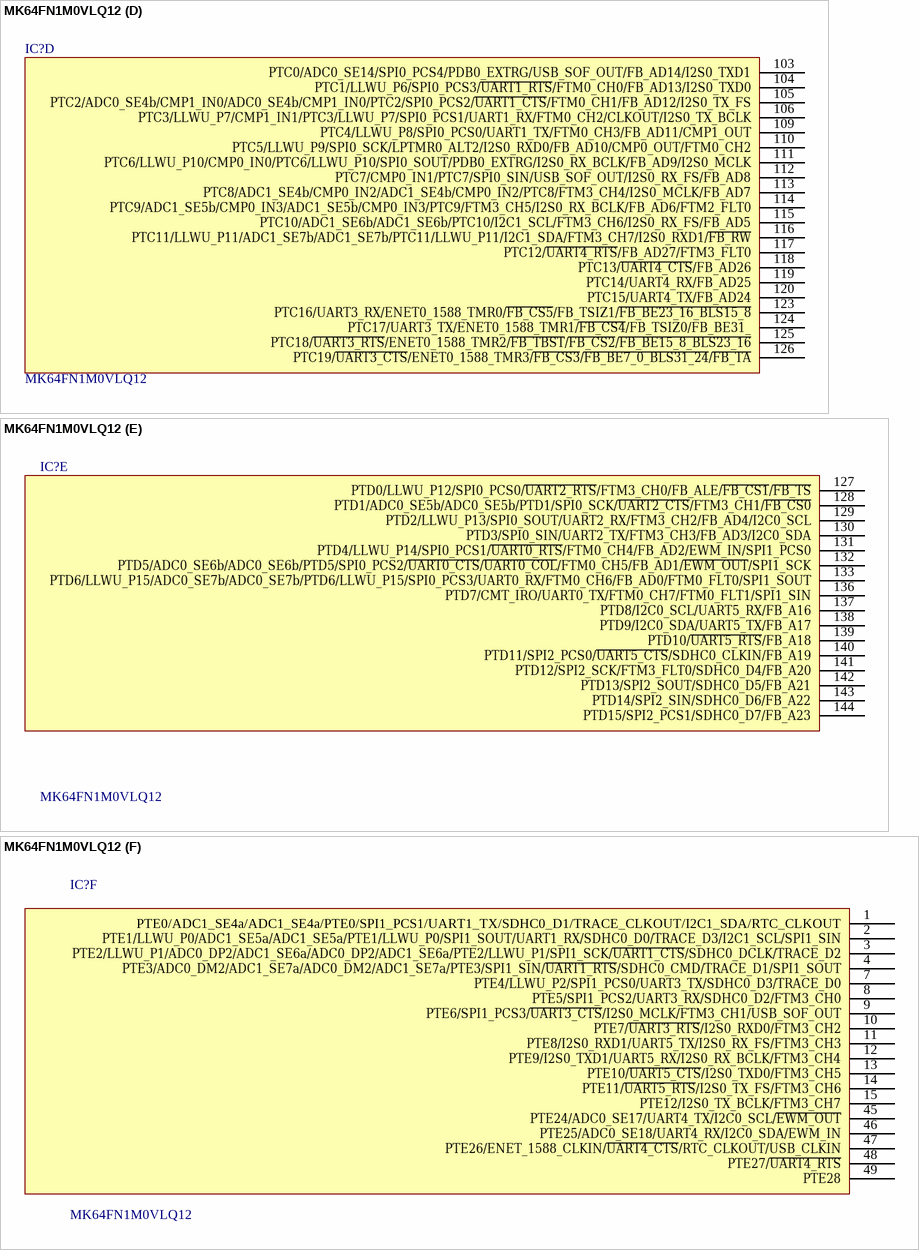
[diagram p24: symbol MK64FN1M0VLQ12]

## MK64FN1M0VLQ12
designator IC?
IC MCU 32BIT 1MB FLASH 144LQFP; Manufacturer: NXP USA Inc.; Connectivity: CANbus, EBI/EMI, Ethernet, I²C, IrDA, SD, SPI, UART/USART, USB, USB OTG; Core Processor: ARM® Cortex®-M4; Core Size: 32-Bit; Data Converters: A/D 41x16b; D/A 2x12b; Number of I/O: 100; Oscillator Type: Internal; Peripherals: DMA, I²S, LVD, POR, PWM, WDT; Program Memory Size: 1MB (1M x 8); RAM Size: 256K x 8; Speed: 120MHz; Voltage - Supply (Vcc/Vdd): 1.71V ~ 3.6V; Part Number: MK64FN1M0VLQ12; ComponentLink1Description: Datasheet; ComponentLink1URL: http://cache.freescale.com/files/microcontrollers/doc/data_sheet/K64P144M120SF5.pdf; ComponentLink2Description: DigiKey Link; ComponentLink2URL: //digikey.com/product-detail/en/nxp-usa-inc/MK64FN1M0VLQ12/MK64FN1M0VLQ12-ND/4462053; Device Package: 144-LQFP; LastUpdated: 12/9/2019 2:37:45 AM; Lifecycle Status: 0; Minimum Order: 1; Mounting Type: Surface Mount; Operating Temperature: -40°C ~ 105°C (TA); Package / Case: 144-LQFP; Packaging: Tray; PartId: 141; Part Status: Active; Price: 15.17; Program Memory Type: FLASH; Series: Kinetis K60; Supplier 1: DigiKey; Supplier Part Number 1: MK64FN1M0VLQ12-ND; Supplier Device Package: 144-LQFP (20x20)
footprint NXP LQFP-144 SOT486-1
part A pins: 5 ​VDD, 6 ​VSS, 16 ​VDD, 17 ​VSS, 18 ​VSS, 19 ​USB0_DP, 20 ​USB0_DM, 21 ​VOUT33, 22 ​VREGIN, 23 ​ADC0_DP1, 24 ​ADC0_DM1, 25 ​ADC1_DP1, 26 ​ADC1_DM1, 27 ​ADC0_DP0/ADC1_DP3, 28 ​ADC0_DM0/ADC1_DM3, 29 ​ADC1_DP0/ADC0_DP3, 30 ​ADC1_DM0/ADC0_DM3, 31 ​VDDA, 32 ​VREFH, 33 ​VREFL, 34 ​VSSA, 35 ​ADC1_SE16/CMP2_IN2/ADC0_SE22, 36 ​ADC0_SE16/CMP1_IN2/ADC0_SE21, 37 ​VREF_OUT/CMP1_IN5/CMP0_IN5/ADC1_SE18, 38 ​DAC0_OUT/CMP1_IN3/ADC0_SE23, 39 ​DAC1_OUT/CMP0_IN4/CMP2_IN3/ADC1_SE23, 40 ​XTAL32, 41 ​EXTAL32, 42 ​VBAT, 43 ​VDD, 44 ​VSS, 56 ​VDD, 57 ​VSS, 70 ​VDD, 71 ​VSS, 74 ​~{RESET}, 93 ​VSS, 94 ​VDD, 107 ​VSS, 108 ​VDD, 121 ​VSS, 122 ​VDD, 134 ​VSS, 135 ​VDD
part B pins: 50 ​PTA0/JTAG_TCLK/SWD_CLK/EZP_CLK/PTA0/~{UART0_CTS}/~{UART0_COL}/FTM0_CH5/JTAG_TCLK/SWD_CLK/EZP_CLK, 51 ​PTA1/JTAG_TDI/EZP_DI/PTA1/UART0_RX/FTM0_CH6/JTAG_TDI/EZP_DI, 52 ​PTA2/JTAG_TDO/TRACE_SWO/EZP_DO/PTA2/UART0_TX/FTM0_CH7/JTAG_TDO/TRACE_SWO/EZP_DO, 53 ​PTA3/JTAG_TMS/SWD_DIO/PTA3/~{UART0_RTS}/FTM0_CH0/JTAG_TMS/SWD_DIO, 54 ​PTA4/LLWU_P3/~{NMI}/~{EZP_CS}/PTA4/LLWU_P3/FTM0_CH1/~{NMI}/~{EZP_CS}, 55 ​PTA5/USB_CLKIN/FTM0_CH2/RMII0_RXER/MII0_RXER/CMP2_OUT/I2S0_TX_BCLK/~{JTAG_TRST}, 58 ​PTA6/FTM0_CH3/CLKOUT/TRACE_CLKOUT, 59 ​PTA7/ADC0_SE10/FTM0_CH4/TRACE_D3, 60 ​PTA8/ADC0_SE11/FTM1_CH0/FTM1_QD_PHA/TRACE_D2, 61 ​PTA9/FTM1_CH1/MII0_RXD3/FTM1_QD_PHB/TRACE_D1, 62 ​PTA10/FTM2_CH0/MII0_RXD2/FTM2_QD_PHA/TRACE_D0, 63 ​PTA11/FTM2_CH1/MII0_RXCLK/I2C2_SDA/FTM2_QD_PHB, 64 ​PTA12/CMP2_IN0/PTA12/CAN0_TX/FTM1_CH0/RMII0_RXD1/MII0_RXD1/I2C2_SCL/I2S0_TXD0/FTM1_QD_PHA, 65 ​PTA13/LLWU_P4/CMP2_IN1/PTA13/LLWU_P4/CAN0_RX/FTM1_CH1/RMII0_RXD0/MII0_RXD0/I2C2_SDA/I2S0_TX_FS/FTM1_QD_PHB, 66 ​PTA14/SPI0_PCS0/UART0_TX/RMII0_CRS_DV/MII0_RXDV/I2C2_SCL/I2S0_RX_BCLK/I2S0_TXD1, 67 ​PTA15/SPI0_SCK/UART0_RX/RMII0_TXEN/MII0_TXEN/I2S0_RXD0, 68 ​PTA16/SPI0_SOUT/~{UART0_CTS}/~{UART0_COL}/RMII0_TXD0/MII0_TXD0/I2S0_RX_FS/I2S0_RXD1, 69 ​PTA17/ADC1_SE17/SPI0_SIN/~{UART0_RTS}/RMII0_TXD1/MII0_TXD1/I2S0_MCLK, 72 ​PTA18/EXTAL0/PTA18/FTM0_FLT2/FTM_CLKIN0, 73 ​PTA19/XTAL0/PTA19/FTM1_FLT0/FTM_CLKIN1/LPTMR0_ALT1, 75 ​PTA24/MII0_TXD2/FB_A29, 76 ​PTA25/MII0_TXCLK/FB_A28, 77 ​PTA26/MII0_TXD3/FB_A27, 78 ​PTA27/MII0_CRS/FB_A26, 79 ​PTA28/MII0_TXER/FB_A25, 80 ​PTA29/MII0_COL/FB_A24
part C pins: 81 ​PTB0/ADC0_SE8/ADC1_SE8/LLWU_P5/I2C0_SCL/FTM1_CH0/RMII0_MDIO/MII0_MDIO/FTM1_QD_PHA, 82 ​PTB1/ADC0_SE9/ADC1_SE9/I2C0_SDA/FTM1_CH1/RMII0_MDC/MII0_MDC/FTM1_QD_PHB, 83 ​PTB2/ADC0_SE12/I2C0_SCL/~{UART0_RTS}/ENET0_1588_TMR0/FTM0_FLT3, 84 ​PTB3/ADC0_SE13/I2C0_SDA/~{UART0_CTS}/~{UART0_COL}/ENET0_1588_TMR1/FTM0_FLT0, 85 ​PTB4/ADC1_SE10/ENET0_1588_TMR2/FTM1_FLT0, 86 ​PTB5/ADC1_SE11/ENET0_1588_TMR3/FTM2_FLT0, 87 ​PTB6/ADC1_SE12/FB_AD23, 88 ​PTB7/ADC1_SE13/FB_AD22, 89 ​PTB8/~{UART3_RTS}/FB_AD21, 90 ​PTB9/SPI1_PCS1/~{UART3_CTS}/FB_AD20, 91 ​PTB10/ADC1_SE14/SPI1_PCS0/UART3_RX/FB_AD19/FTM0_FLT1, 92 ​PTB11/ADC1_SE15/SPI1_SCK/UART3_TX/FB_AD18/FTM0_FLT2, 95 ​PTB16/SPI1_SOUT/UART0_RX/FTM_CLKIN0/FB_AD17/EWM_IN, 96 ​PTB17/SPI1_SIN/UART0_TX/FTM_CLKIN1/FB_AD16/~{EWM_OUT}, 97 ​PTB18/CAN0_TX/FTM2_CH0/I2S0_TX_BCLK/FB_AD15/FTM2_QD_PHA, 98 ​PTB19/CAN0_RX/FTM2_CH1/I2S0_TX_FS/~{FB_OE}/FTM2_QD_PHB, 99 ​PTB20/SPI2_PCS0/FB_AD31/CMP0_OUT, 100 ​PTB21/SPI2_SCK/FB_AD30/CMP1_OUT, 101 ​PTB22/SPI2_SOUT/FB_AD29/CMP2_OUT, 102 ​PTB23/SPI2_SIN/SPI0_PCS5/FB_AD28/
part D pins: 103 ​PTC0/ADC0_SE14/SPI0_PCS4/PDB0_EXTRG/USB_SOF_OUT/FB_AD14/I2S0_TXD1, 104 ​PTC1/LLWU_P6/SPI0_PCS3/~{UART1_RTS}/FTM0_CH0/FB_AD13/I2S0_TXD0, 105 ​PTC2/ADC0_SE4b/CMP1_IN0/ADC0_SE4b/CMP1_IN0/PTC2/SPI0_PCS2/~{UART1_CTS}/FTM0_CH1/FB_AD12/I2S0_TX_FS, 106 ​PTC3/LLWU_P7/CMP1_IN1/PTC3/LLWU_P7/SPI0_PCS1/UART1_RX/FTM0_CH2/CLKOUT/I2S0_TX_BCLK, 109 ​PTC4/LLWU_P8/SPI0_PCS0/UART1_TX/FTM0_CH3/FB_AD11/CMP1_OUT, 110 ​PTC5/LLWU_P9/SPI0_SCK/LPTMR0_ALT2/I2S0_RXD0/FB_AD10/CMP0_OUT/FTM0_CH2, 111 ​PTC6/LLWU_P10/CMP0_IN0/PTC6/LLWU_P10/SPI0_SOUT/PDB0_EXTRG/I2S0_RX_BCLK/FB_AD9/I2S0_MCLK, 112 ​PTC7/CMP0_IN1/PTC7/SPI0_SIN/USB_SOF_OUT/I2S0_RX_FS/FB_AD8, 113 ​PTC8/ADC1_SE4b/CMP0_IN2/ADC1_SE4b/CMP0_IN2/PTC8/FTM3_CH4/I2S0_MCLK/FB_AD7, 114 ​PTC9/ADC1_SE5b/CMP0_IN3/ADC1_SE5b/CMP0_IN3/PTC9/FTM3_CH5/I2S0_RX_BCLK/FB_AD6/FTM2_FLT0, 115 ​PTC10/ADC1_SE6b/ADC1_SE6b/PTC10/I2C1_SCL/FTM3_CH6/I2S0_RX_FS/FB_AD5, 116 ​PTC11/LLWU_P11/ADC1_SE7b/ADC1_SE7b/PTC11/LLWU_P11/I2C1_SDA/FTM3_CH7/I2S0_RXD1/~{FB_RW}, 117 ​PTC12/~{UART4_RTS}/FB_AD27/FTM3_FLT0, 118 ​PTC13/~{UART4_CTS}/FB_AD26, 119 ​PTC14/UART4_RX/FB_AD25, 120 ​PTC15/UART4_TX/FB_AD24, 123 ​PTC16/UART3_RX/ENET0_1588_TMR0/~{FB_CS5}/FB_TSIZ1/~{FB_BE23_16_BLS15_8}, 124 ​PTC17/UART3_TX/ENET0_1588_TMR1/~{FB_CS4}/FB_TSIZ0/FB_BE31_, 125 ​PTC18/~{UART3_RTS}/ENET0_1588_TMR2/~{FB_TBST}/~{FB_CS2}/~{FB_BE15_8_BLS23_16}, 126 ​PTC19/~{UART3_CTS}/ENET0_1588_TMR3/~{FB_CS3}/~{FB_BE7_0_BLS31_24}/~{FB_TA}
part E pins: 127 ​PTD0/LLWU_P12/SPI0_PCS0/~{UART2_RTS}/FTM3_CH0/FB_ALE/~{FB_CS1}/~{FB_TS}, 128 ​PTD1/ADC0_SE5b/ADC0_SE5b/PTD1/SPI0_SCK/~{UART2_CTS}/FTM3_CH1/~{FB_CS0}, 129 ​PTD2/LLWU_P13/SPI0_SOUT/UART2_RX/FTM3_CH2/FB_AD4/I2C0_SCL, 130 ​PTD3/SPI0_SIN/UART2_TX/FTM3_CH3/FB_AD3/I2C0_SDA, 131 ​PTD4/LLWU_P14/SPI0_PCS1/~{UART0_RTS}/FTM0_CH4/FB_AD2/EWM_IN/SPI1_PCS0, 132 ​PTD5/ADC0_SE6b/ADC0_SE6b/PTD5/SPI0_PCS2/~{UART0_CTS}/~{UART0_COL}/FTM0_CH5/FB_AD1/~{EWM_OUT}/SPI1_SCK, 133 ​PTD6/LLWU_P15/ADC0_SE7b/ADC0_SE7b/PTD6/LLWU_P15/SPI0_PCS3/UART0_RX/FTM0_CH6/FB_AD0/FTM0_FLT0/SPI1_SOUT, 136 ​PTD7/CMT_IRO/UART0_TX/FTM0_CH7/FTM0_FLT1/SPI1_SIN, 137 ​PTD8/I2C0_SCL/UART5_RX/FB_A16, 138 ​PTD9/I2C0_SDA/UART5_TX/FB_A17, 139 ​PTD10/~{UART5_RTS}/FB_A18, 140 ​PTD11/SPI2_PCS0/~{UART5_CTS}/SDHC0_CLKIN/FB_A19, 141 ​PTD12/SPI2_SCK/FTM3_FLT0/SDHC0_D4/FB_A20, 142 ​PTD13/SPI2_SOUT/SDHC0_D5/FB_A21, 143 ​PTD14/SPI2_SIN/SDHC0_D6/FB_A22, 144 ​PTD15/SPI2_PCS1/SDHC0_D7/FB_A23
part F pins: 1 PTE0/ADC1_SE4a/ADC1_SE4a/PTE0/SPI1_PCS1/UART1_TX/SDHC0_D1/TRACE_CLKOUT/I2C1_SDA/RTC_CLKOUT, 2 ​PTE1/LLWU_P0/ADC1_SE5a/ADC1_SE5a/PTE1/LLWU_P0/SPI1_SOUT/UART1_RX/SDHC0_D0/TRACE_D3/I2C1_SCL/SPI1_SIN, 3 ​PTE2/LLWU_P1/ADC0_DP2/ADC1_SE6a/ADC0_DP2/ADC1_SE6a/PTE2/LLWU_P1/SPI1_SCK/~{UART1_CTS}/SDHC0_DCLK/TRACE_D2, 4 ​PTE3/ADC0_DM2/ADC1_SE7a/ADC0_DM2/ADC1_SE7a/PTE3/SPI1_SIN/~{UART1_RTS}/SDHC0_CMD/TRACE_D1/SPI1_SOUT, 7 ​PTE4/LLWU_P2/SPI1_PCS0/UART3_TX/SDHC0_D3/TRACE_D0, 8 ​PTE5/SPI1_PCS2/UART3_RX/SDHC0_D2/FTM3_CH0, 9 ​PTE6/SPI1_PCS3/~{UART3_CTS}/I2S0_MCLK/FTM3_CH1/USB_SOF_OUT, 10 ​PTE7/~{UART3_RTS}/I2S0_RXD0/FTM3_CH2, 11 ​PTE8/I2S0_RXD1/UART5_TX/I2S0_RX_FS/FTM3_CH3, 12 ​PTE9/I2S0_TXD1/UART5_RX/I2S0_RX_BCLK/FTM3_CH4, 13 ​PTE10/~{UART5_CTS}/I2S0_TXD0/FTM3_CH5, 14 ​PTE11/~{UART5_RTS}/I2S0_TX_FS/FTM3_CH6, 15 ​PTE12/I2S0_TX_BCLK/FTM3_CH7, 45 ​PTE24/ADC0_SE17/UART4_TX/I2C0_SCL/~{EWM_OUT}, 46 ​PTE25/ADC0_SE18/UART4_RX/I2C0_SDA/EWM_IN, 47 ​PTE26/ENET_1588_CLKIN/~{UART4_CTS}/RTC_CLKOUT/USB_CLKIN, 48 ​PTE27/~{UART4_RTS}, 49 ​PTE28

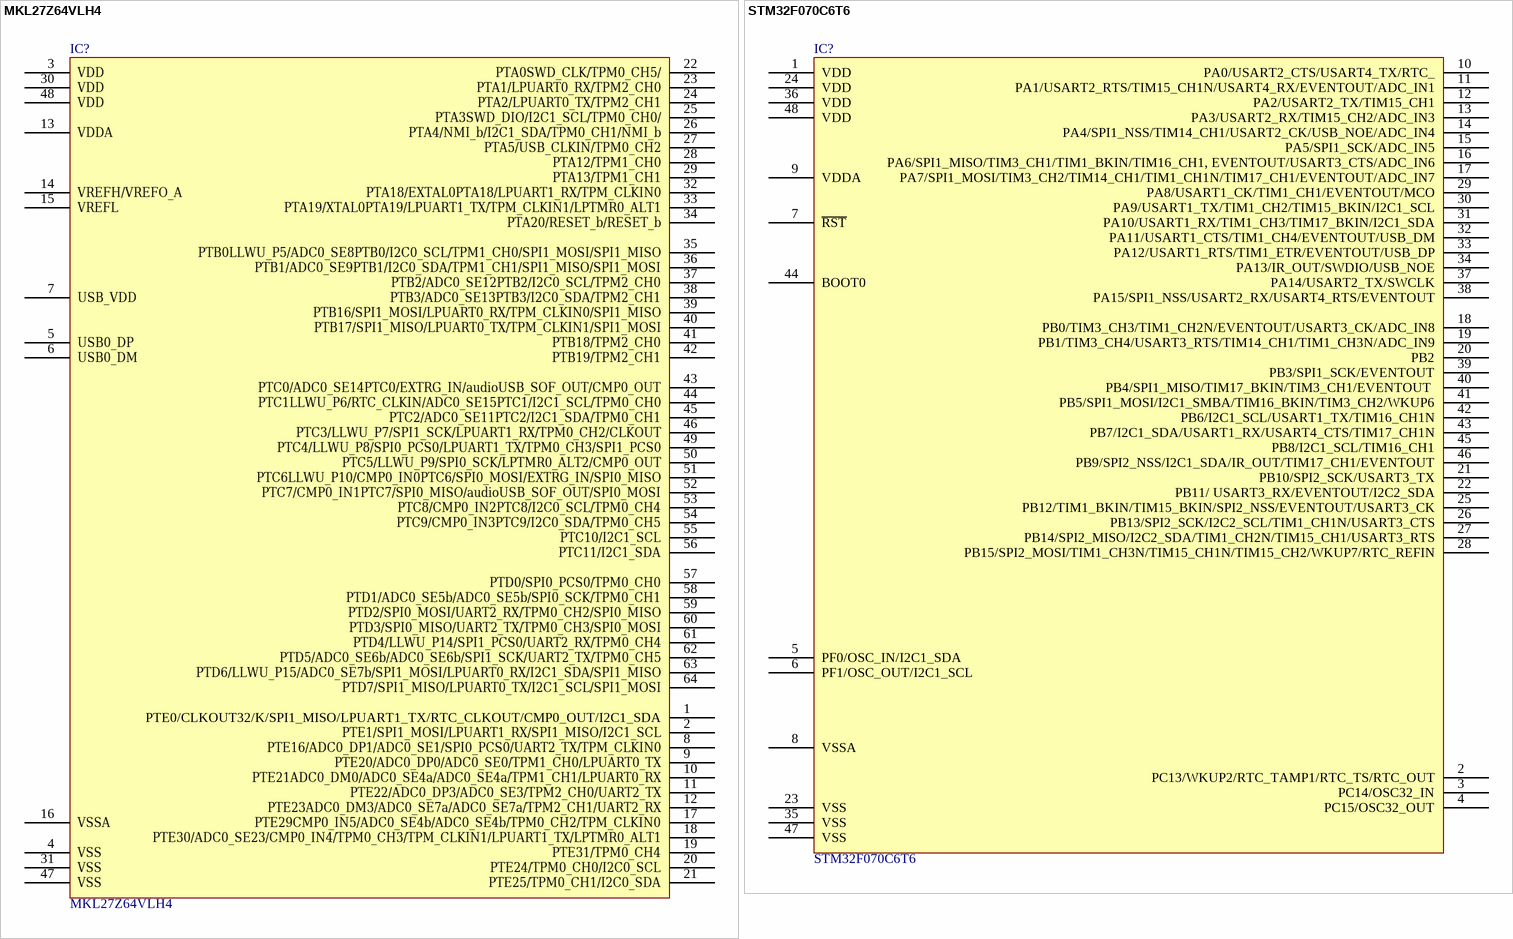
[diagram p25: symbols MKL27Z64VLH4 to STM32F070C6T6]